# Altium integrated library CDE_Library.IntLib: 6171 symbols (part 5 of 25)
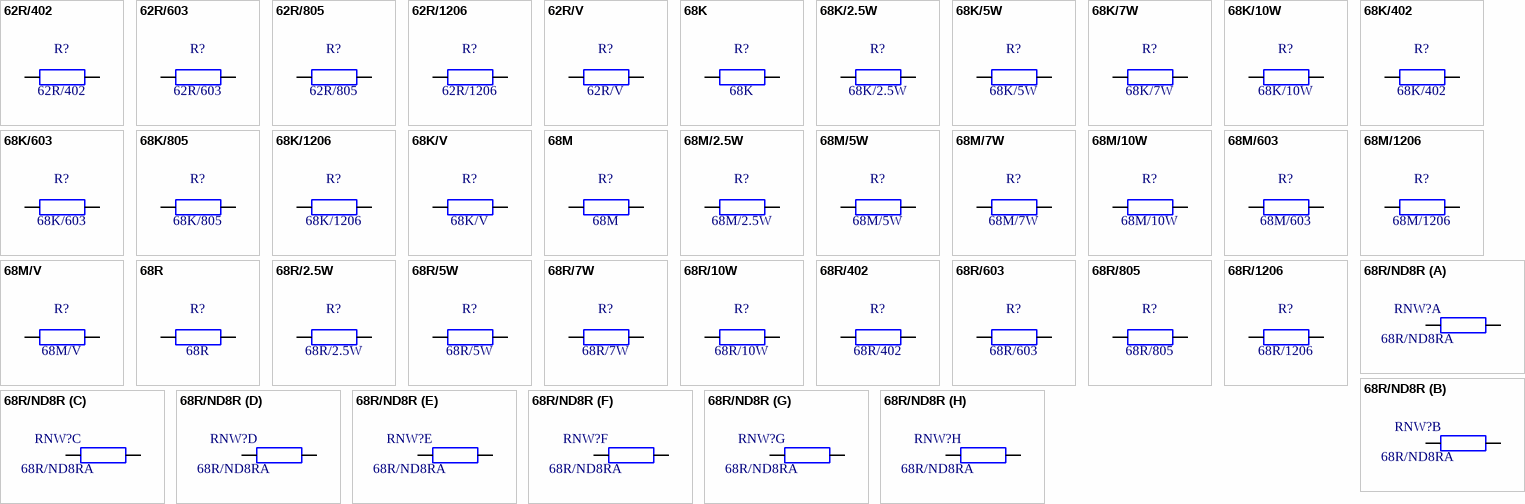
[diagram p261: symbols 62R/402 to 68R/ND8R]

## 62R/603
designator R?
weerstand SMD603, 62R
footprint smd C0603_0.45
pins: 1, 2

## 62R/805
designator R?
weerstand SMD805, 62R
footprint smd C0805_0.50
pins: 1, 2

## 62R/1206
designator R?
weerstand SMD1206, 62R
footprint smd C1206_0.55
pins: 1, 2

## 62R/V
designator R?
weerstand 62R 0.6W, vertikaal
footprint ws 0.6W V
pins: 1, 2

## 68K
designator R?
weerstand 68K 0.6W
footprint ws 0.6W H
pins: 1, 2

## 68K/2.5W
designator R?
weerstand 68K 2.5W
footprint ws 2.5W H
pins: 1, 2

## 68K/5W
designator R?
weerstand 68K 5W
footprint ws 5W H
pins: 1, 2

## 68K/7W
designator R?
weerstand 68K 7W
footprint ws 7W H
pins: 1, 2

## 68K/10W
designator R?
weerstand 68K 10W
footprint ws 10W H
pins: 1, 2

## 68K/402
designator R?
weerstand SMD402, 68K
footprint smd C0402_0.35
pins: 1, 2

## 68K/603
designator R?
weerstand SMD603, 68K
footprint smd C0603_0.45
pins: 1, 2

## 68K/805
designator R?
weerstand SMD805, 68K
footprint smd C0805_0.50
pins: 1, 2

## 68K/1206
designator R?
weerstand SMD1206, 68K
footprint smd C1206_0.55
pins: 1, 2

## 68K/V
designator R?
weerstand 68K 0.6W, vertikaal
footprint ws 0.6W V
pins: 1, 2

## 68M
designator R?
weerstand 68M 0.6W
footprint ws 0.6W H
pins: 1, 2

## 68M/2.5W
designator R?
weerstand 68M 2.5W
footprint ws 2.5W H
pins: 1, 2

## 68M/5W
designator R?
weerstand 68M 5W
footprint ws 5W H
pins: 1, 2

## 68M/7W
designator R?
weerstand 68M 7W
footprint ws 7W H
pins: 1, 2

## 68M/10W
designator R?
weerstand 68M 10W
footprint ws 10W H
pins: 1, 2

## 68M/603
designator R?
weerstand SMD603, 68M
footprint smd C0603_0.45
pins: 1, 2

## 68M/1206
designator R?
weerstand SMD1206, 68M
footprint smd C1206_0.55
pins: 1, 2

## 68M/V
designator R?
weerstand 68M 0.6W, vertikaal
footprint ws 0.6W V
pins: 1, 2

## 68R
designator R?
weerstand 68R 0.6W
footprint ws 0.6W H
pins: 1, 2

## 68R/2.5W
designator R?
weerstand 68R 2.5W
footprint ws 2.5W H
pins: 1, 2

## 68R/5W
designator R?
weerstand 68R 5W
footprint ws 5W H
pins: 1, 2

## 68R/7W
designator R?
weerstand 68R 7W
footprint ws 7W H
pins: 1, 2

## 68R/10W
designator R?
weerstand 68R 10W
footprint ws 10W H
pins: 1, 2

## 68R/402
designator R?
weerstand SMD402, 68R
footprint smd C0402_0.35
pins: 1, 2

## 68R/603
designator R?
weerstand SMD603, 68R
footprint smd C0603_0.45
pins: 1, 2

## 68R/805
designator R?
weerstand SMD805, 68R
footprint smd C0805_0.50
pins: 1, 2

## 68R/1206
designator R?
weerstand SMD1206, 68R
footprint smd C1206_0.55
pins: 1, 2

## 68R/ND8R
designator RNW?, comment 68R/ND8RA
weerstandsnetwerk, DIL, 8 x 68R
footprint icv DIP16-300
part A pins: 1, 16
part B pins: 2, 15
part C pins: 3, 14
part D pins: 4, 13
part E pins: 5, 12
part F pins: 6, 11
part G pins: 7, 10
part H pins: 8, 9

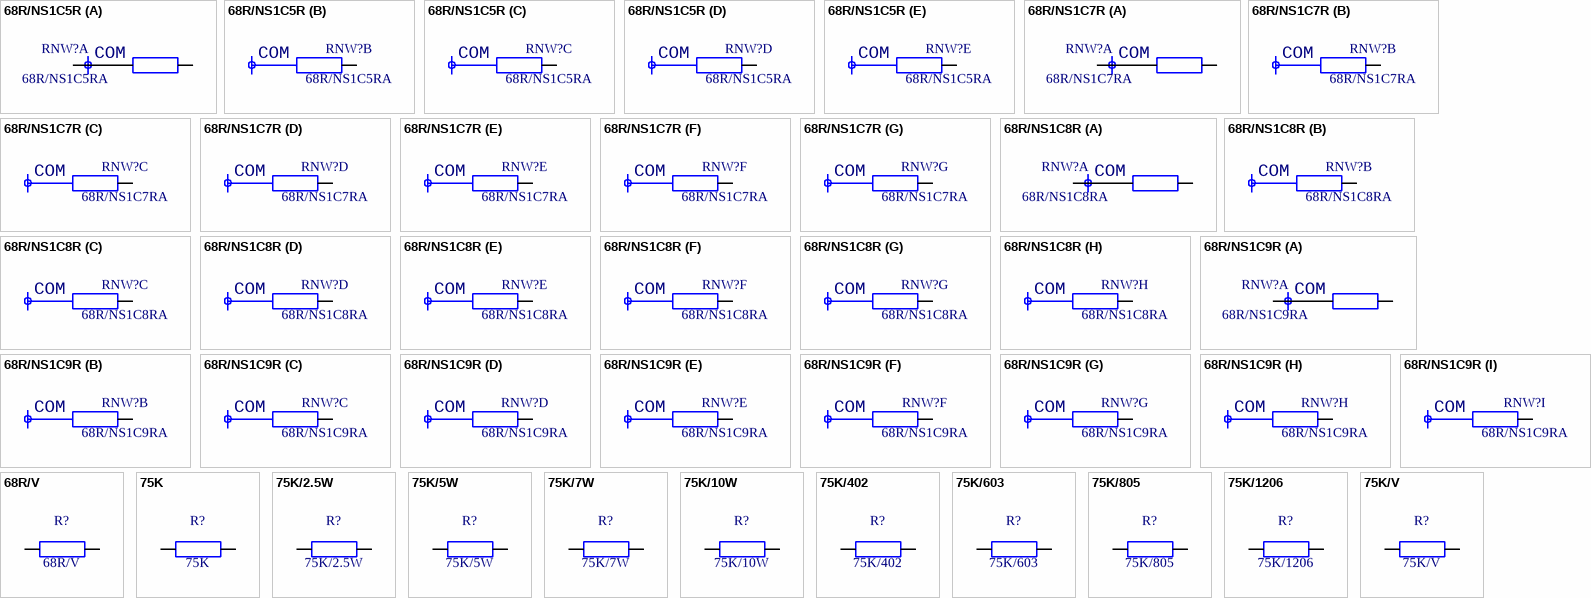
[diagram p69: symbols 68R/NS1C5R to 75K/V]

## 68R/NS1C5R
designator RNW?, comment 68R/NS1C5RA
weerstandsnetwerk, SIL, 1 gemeens.pin, 5 weerst., 68R
footprint ws netwerk 5xR 1C (SIL)
part A pins: 1, 2
part B pins: 3
part C pins: 4
part D pins: 5
part E pins: 6
part A text: COM
part B text: COM
part C text: COM
part D text: COM
part E text: COM

## 68R/NS1C7R
designator RNW?, comment 68R/NS1C7RA
weerstandsnetwerk, SIL, 1 gemeens.pin, 7 weerst., 68R
footprint ws netwerk 7xR 1C (SIL)
part A pins: 1, 2
part B pins: 3
part C pins: 4
part D pins: 5
part E pins: 6
part F pins: 7
part G pins: 8
part A text: COM
part B text: COM
part C text: COM
part D text: COM
part E text: COM
part F text: COM
part G text: COM

## 68R/NS1C8R
designator RNW?, comment 68R/NS1C8RA
weerstandsnetwerk, SIL, 1 gemeens.pin, 8 weerst., 68R
footprint ws netwerk 8xR 1C (SIL)
part A pins: 1, 2
part B pins: 3
part C pins: 4
part D pins: 5
part E pins: 6
part F pins: 7
part G pins: 8
part H pins: 9
part A text: COM
part B text: COM
part C text: COM
part D text: COM
part E text: COM
part F text: COM
part G text: COM
part H text: COM

## 68R/NS1C9R
designator RNW?, comment 68R/NS1C9RA
weerstandsnetwerk, SIL, 1 gemeens.pin, 9 weerst., 68R
footprint ws netwerk 9xR 1C (SIL)
part A pins: 1, 2
part B pins: 3
part C pins: 4
part D pins: 5
part E pins: 6
part F pins: 7
part G pins: 8
part H pins: 9
part I pins: 10
part A text: COM
part B text: COM
part C text: COM
part D text: COM
part E text: COM
part F text: COM
part G text: COM
part H text: COM
part I text: COM

## 68R/V
designator R?
weerstand 68R 0.6W, vertikaal
footprint ws 0.6W V
pins: 1, 2

## 75K
designator R?
weerstand 75K 0.6W
footprint ws 0.6W H
pins: 1, 2

## 75K/2.5W
designator R?
weerstand 75K 2.5W
footprint ws 2.5W H
pins: 1, 2

## 75K/5W
designator R?
weerstand 75K 5W
footprint ws 5W H
pins: 1, 2

## 75K/7W
designator R?
weerstand 75K 7W
footprint ws 7W H
pins: 1, 2

## 75K/10W
designator R?
weerstand 75K 10W
footprint ws 10W H
pins: 1, 2

## 75K/402
designator R?
weerstand SMD402, 75K
footprint smd C0402_0.35
pins: 1, 2

## 75K/603
designator R?
weerstand SMD603, 75K
footprint smd C0603_0.45
pins: 1, 2

## 75K/805
designator R?
weerstand SMD805, 75K
footprint smd C0805_0.50
pins: 1, 2

## 75K/1206
designator R?
weerstand SMD1206, 75K
footprint smd C1206_0.55
pins: 1, 2

## 75K/V
designator R?
weerstand 75K 0.6W, vertikaal
footprint ws 0.6W V
pins: 1, 2

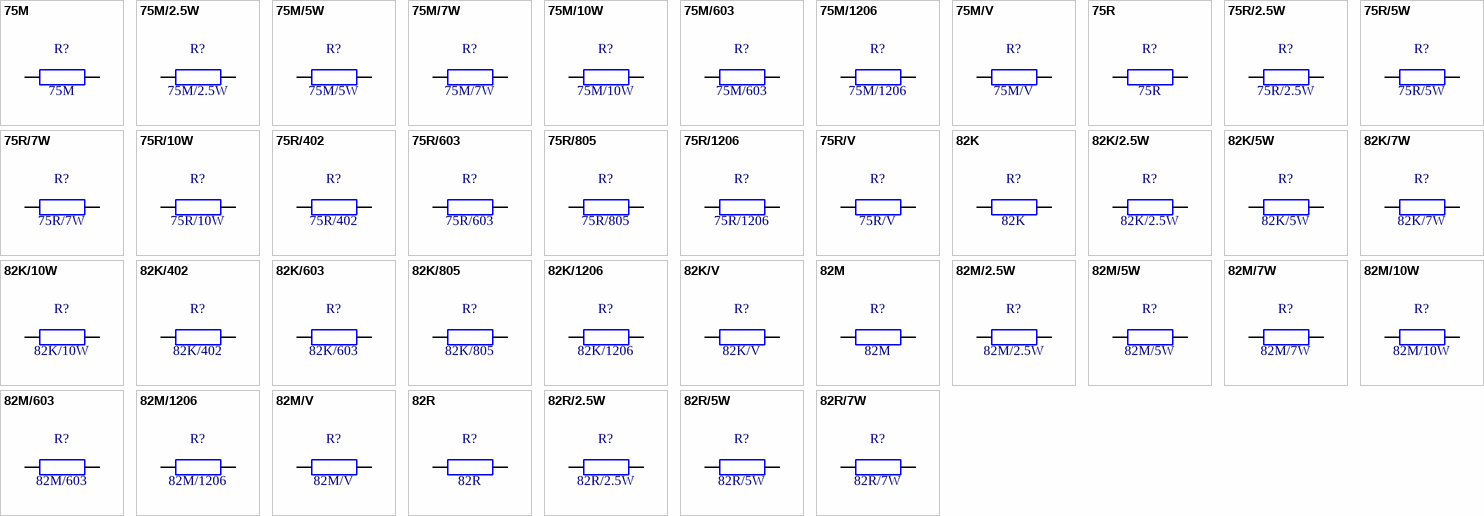
[diagram p70: symbols 75M to 82R/7W]

## 75M
designator R?
weerstand 75M 0.6W
footprint ws 0.6W H
pins: 1, 2

## 75M/2.5W
designator R?
weerstand 75M 2.5W
footprint ws 2.5W H
pins: 1, 2

## 75M/5W
designator R?
weerstand 75M 5W
footprint ws 5W H
pins: 1, 2

## 75M/7W
designator R?
weerstand 75M 7W
footprint ws 7W H
pins: 1, 2

## 75M/10W
designator R?
weerstand 75M 10W
footprint ws 10W H
pins: 1, 2

## 75M/603
designator R?
weerstand SMD603, 75M
footprint smd C0603_0.45
pins: 1, 2

## 75M/1206
designator R?
weerstand SMD1206, 75M
footprint smd C1206_0.55
pins: 1, 2

## 75M/V
designator R?
weerstand 75M 0.6W, vertikaal
footprint ws 0.6W V
pins: 1, 2

## 75R
designator R?
weerstand 75R 0.6W
footprint ws 0.6W H
pins: 1, 2

## 75R/2.5W
designator R?
weerstand 75R 2.5W
footprint ws 2.5W H
pins: 1, 2

## 75R/5W
designator R?
weerstand 75R 5W
footprint ws 5W H
pins: 1, 2

## 75R/7W
designator R?
weerstand 75R 7W
footprint ws 7W H
pins: 1, 2

## 75R/10W
designator R?
weerstand 75R 10W
footprint ws 10W H
pins: 1, 2

## 75R/402
designator R?
weerstand SMD402, 75R
footprint smd C0402_0.35
pins: 1, 2

## 75R/603
designator R?
weerstand SMD603, 75R
footprint smd C0603_0.45
pins: 1, 2

## 75R/805
designator R?
weerstand SMD805, 75R
footprint smd C0805_0.50
pins: 1, 2

## 75R/1206
designator R?
weerstand SMD1206, 75R
footprint smd C1206_0.55
pins: 1, 2

## 75R/V
designator R?
weerstand 75R 0.6W, vertikaal
footprint ws 0.6W V
pins: 1, 2

## 82K
designator R?
weerstand 82K 0.6W
footprint ws 0.6W H
pins: 1, 2

## 82K/2.5W
designator R?
weerstand 82K 2.5W
footprint ws 2.5W H
pins: 1, 2

## 82K/5W
designator R?
weerstand 82K 5W
footprint ws 5W H
pins: 1, 2

## 82K/7W
designator R?
weerstand 82K 7W
footprint ws 7W H
pins: 1, 2

## 82K/10W
designator R?
weerstand 82K 10W
footprint ws 10W H
pins: 1, 2

## 82K/402
designator R?
weerstand SMD402, 82K
footprint smd C0402_0.35
pins: 1, 2

## 82K/603
designator R?
weerstand SMD603, 82K
footprint smd C0603_0.45
pins: 1, 2

## 82K/805
designator R?
weerstand SMD805, 82K
footprint smd C0805_0.50
pins: 1, 2

## 82K/1206
designator R?
weerstand SMD1206, 82K
footprint smd C1206_0.55
pins: 1, 2

## 82K/V
designator R?
weerstand 82K 0.6W, vertikaal
footprint ws 0.6W V
pins: 1, 2

## 82M
designator R?
weerstand 82M 0.6W
footprint ws 0.6W H
pins: 1, 2

## 82M/2.5W
designator R?
weerstand 82M 2.5W
footprint ws 2.5W H
pins: 1, 2

## 82M/5W
designator R?
weerstand 82M 5W
footprint ws 5W H
pins: 1, 2

## 82M/7W
designator R?
weerstand 82M 7W
footprint ws 7W H
pins: 1, 2

## 82M/10W
designator R?
weerstand 82M 10W
footprint ws 10W H
pins: 1, 2

## 82M/603
designator R?
weerstand SMD603, 82M
footprint smd C0603_0.45
pins: 1, 2

## 82M/1206
designator R?
weerstand SMD1206, 82M
footprint smd C1206_0.55
pins: 1, 2

## 82M/V
designator R?
weerstand 82M 0.6W, vertikaal
footprint ws 0.6W V
pins: 1, 2

## 82R
designator R?
weerstand 82R 0.6W
footprint ws 0.6W H
pins: 1, 2

## 82R/2.5W
designator R?
weerstand 82R 2.5W
footprint ws 2.5W H
pins: 1, 2

## 82R/5W
designator R?
weerstand 82R 5W
footprint ws 5W H
pins: 1, 2

## 82R/7W
designator R?
weerstand 82R 7W
footprint ws 7W H
pins: 1, 2

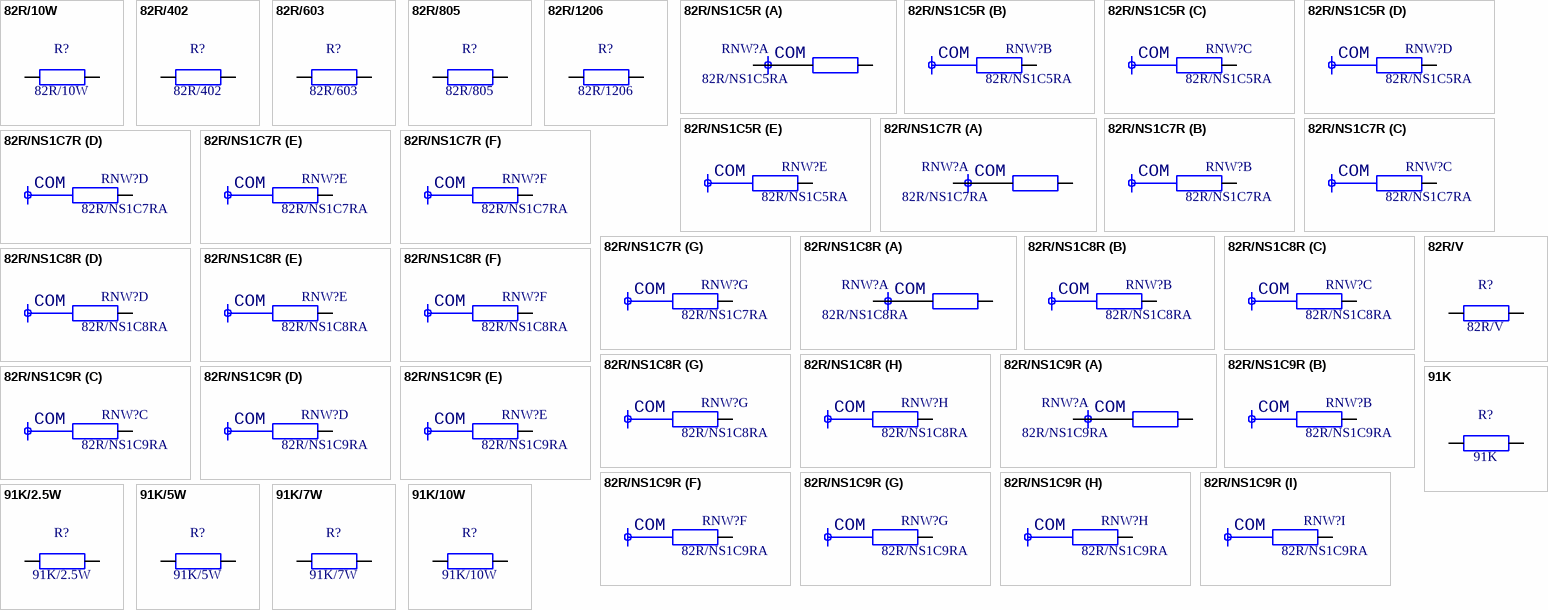
[diagram p71: symbols 82R/10W to 91K/10W]

## 82R/10W
designator R?
weerstand 82R 10W
footprint ws 10W H
pins: 1, 2

## 82R/402
designator R?
weerstand SMD402, 82R
footprint smd C0402_0.35
pins: 1, 2

## 82R/603
designator R?
weerstand SMD603, 82R
footprint smd C0603_0.45
pins: 1, 2

## 82R/805
designator R?
weerstand SMD805, 82R
footprint smd C0805_0.50
pins: 1, 2

## 82R/1206
designator R?
weerstand SMD1206, 82R
footprint smd C1206_0.55
pins: 1, 2

## 82R/NS1C5R
designator RNW?, comment 82R/NS1C5RA
weerstandsnetwerk, SIL, 1 gemeens.pin, 5 weerst., 82R
footprint ws netwerk 5xR 1C (SIL)
part A pins: 1, 2
part B pins: 3
part C pins: 4
part D pins: 5
part E pins: 6
part A text: COM
part B text: COM
part C text: COM
part D text: COM
part E text: COM

## 82R/NS1C7R
designator RNW?, comment 82R/NS1C7RA
weerstandsnetwerk, SIL, 1 gemeens.pin, 7 weerst., 82R
footprint ws netwerk 7xR 1C (SIL)
part A pins: 1, 2
part B pins: 3
part C pins: 4
part D pins: 5
part E pins: 6
part F pins: 7
part G pins: 8
part A text: COM
part B text: COM
part C text: COM
part D text: COM
part E text: COM
part F text: COM
part G text: COM

## 82R/NS1C8R
designator RNW?, comment 82R/NS1C8RA
weerstandsnetwerk, SIL, 1 gemeens.pin, 8 weerst., 82R
footprint ws netwerk 8xR 1C (SIL)
part A pins: 1, 2
part B pins: 3
part C pins: 4
part D pins: 5
part E pins: 6
part F pins: 7
part G pins: 8
part H pins: 9
part A text: COM
part B text: COM
part C text: COM
part D text: COM
part E text: COM
part F text: COM
part G text: COM
part H text: COM

## 82R/NS1C9R
designator RNW?, comment 82R/NS1C9RA
weerstandsnetwerk, SIL, 1 gemeens.pin, 9 weerst., 82R
footprint ws netwerk 9xR 1C (SIL)
part A pins: 1, 2
part B pins: 3
part C pins: 4
part D pins: 5
part E pins: 6
part F pins: 7
part G pins: 8
part H pins: 9
part I pins: 10
part A text: COM
part B text: COM
part C text: COM
part D text: COM
part E text: COM
part F text: COM
part G text: COM
part H text: COM
part I text: COM

## 82R/V
designator R?
weerstand 82R 0.6W, vertikaal
footprint ws 0.6W V
pins: 1, 2

## 91K
designator R?
weerstand 91K 0.6W
footprint ws 0.6W H
pins: 1, 2

## 91K/2.5W
designator R?
weerstand 91K 2.5W
footprint ws 2.5W H
pins: 1, 2

## 91K/5W
designator R?
weerstand 91K 5W
footprint ws 5W H
pins: 1, 2

## 91K/7W
designator R?
weerstand 91K 7W
footprint ws 7W H
pins: 1, 2

## 91K/10W
designator R?
weerstand 91K 10W
footprint ws 10W H
pins: 1, 2

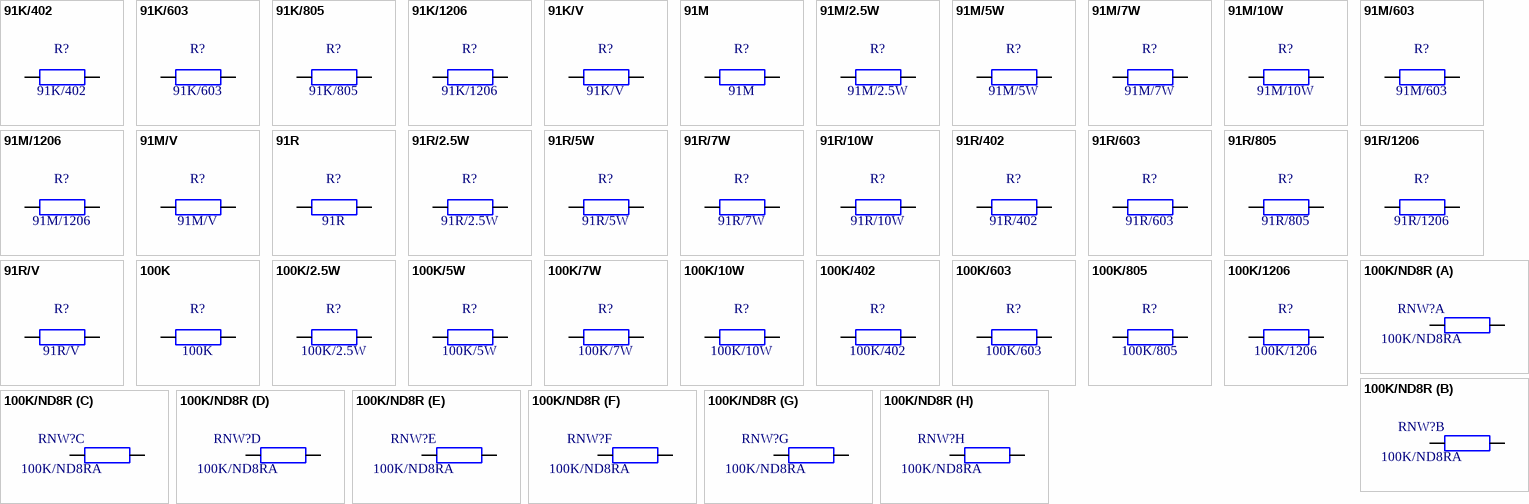
[diagram p72: symbols 91K/402 to 100K/ND8R]

## 91K/402
designator R?
weerstand SMD402, 91K
footprint smd C0402_0.35
pins: 1, 2

## 91K/603
designator R?
weerstand SMD603, 91K
footprint smd C0603_0.45
pins: 1, 2

## 91K/805
designator R?
weerstand SMD805, 91K
footprint smd C0805_0.50
pins: 1, 2

## 91K/1206
designator R?
weerstand SMD1206, 91K
footprint smd C1206_0.55
pins: 1, 2

## 91K/V
designator R?
weerstand 91K 0.6W, vertikaal
footprint ws 0.6W V
pins: 1, 2

## 91M
designator R?
weerstand 91M 0.6W
footprint ws 0.6W H
pins: 1, 2

## 91M/2.5W
designator R?
weerstand 91M 2.5W
footprint ws 2.5W H
pins: 1, 2

## 91M/5W
designator R?
weerstand 91M 5W
footprint ws 5W H
pins: 1, 2

## 91M/7W
designator R?
weerstand 91M 7W
footprint ws 7W H
pins: 1, 2

## 91M/10W
designator R?
weerstand 91M 10W
footprint ws 10W H
pins: 1, 2

## 91M/603
designator R?
weerstand SMD603, 91M
footprint smd C0603_0.45
pins: 1, 2

## 91M/1206
designator R?
weerstand SMD1206, 91M
footprint smd C1206_0.55
pins: 1, 2

## 91M/V
designator R?
weerstand 91M 0.6W, vertikaal
footprint ws 0.6W V
pins: 1, 2

## 91R
designator R?
weerstand 91R 0.6W
footprint ws 0.6W H
pins: 1, 2

## 91R/2.5W
designator R?
weerstand 91R 2.5W
footprint ws 2.5W H
pins: 1, 2

## 91R/5W
designator R?
weerstand 91R 5W
footprint ws 5W H
pins: 1, 2

## 91R/7W
designator R?
weerstand 91R 7W
footprint ws 7W H
pins: 1, 2

## 91R/10W
designator R?
weerstand 91R 10W
footprint ws 10W H
pins: 1, 2

## 91R/402
designator R?
weerstand SMD402, 91R
footprint smd C0402_0.35
pins: 1, 2

## 91R/603
designator R?
weerstand SMD603, 91R
footprint smd C0603_0.45
pins: 1, 2

## 91R/805
designator R?
weerstand SMD805, 91R
footprint smd C0805_0.50
pins: 1, 2

## 91R/1206
designator R?
weerstand SMD1206, 91R
footprint smd C1206_0.55
pins: 1, 2

## 91R/V
designator R?
weerstand 91R 0.6W, vertikaal
footprint ws 0.6W V
pins: 1, 2

## 100K
designator R?
weerstand 100K 0.6W
footprint ws 0.6W H
pins: 1, 2

## 100K/2.5W
designator R?
weerstand 100K 2.5W
footprint ws 2.5W H
pins: 1, 2

## 100K/5W
designator R?
weerstand 100K 5W
footprint ws 5W H
pins: 1, 2

## 100K/7W
designator R?
weerstand 100K 7W
footprint ws 7W H
pins: 1, 2

## 100K/10W
designator R?
weerstand 100K 10W
footprint ws 10W H
pins: 1, 2

## 100K/402
designator R?
weerstand SMD402, 100K
footprint smd C0402_0.35
pins: 1, 2

## 100K/603
designator R?
weerstand SMD603, 100K
footprint smd C0603_0.45
pins: 1, 2

## 100K/805
designator R?
weerstand SMD805, 100K
footprint smd C0805_0.50
pins: 1, 2

## 100K/1206
designator R?
weerstand SMD1206, 100K
footprint smd C1206_0.55
pins: 1, 2

## 100K/ND8R
designator RNW?, comment 100K/ND8RA
weerstandsnetwerk, DIL, 8 x 100K
footprint icv DIP16-300
part A pins: 1, 16
part B pins: 2, 15
part C pins: 3, 14
part D pins: 4, 13
part E pins: 5, 12
part F pins: 6, 11
part G pins: 7, 10
part H pins: 8, 9

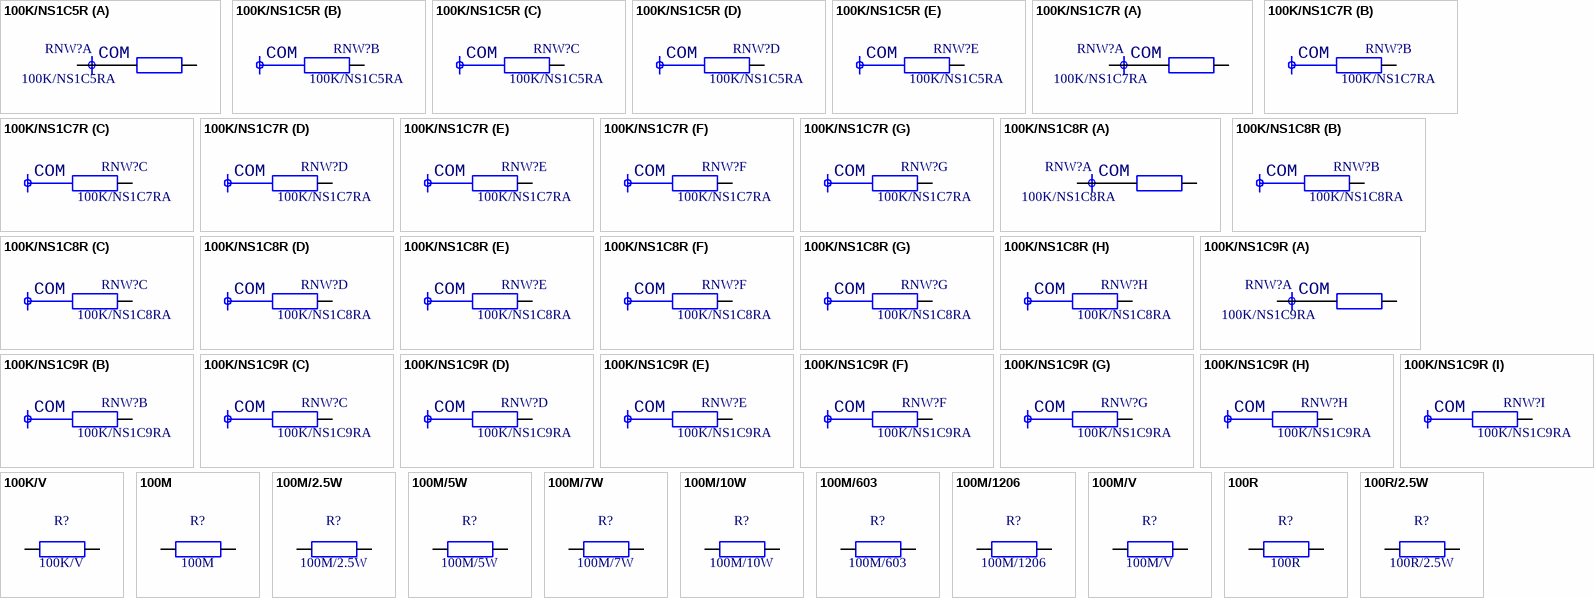
[diagram p73: symbols 100K/NS1C5R to 100R/2.5W]

## 100K/NS1C5R
designator RNW?, comment 100K/NS1C5RA
weerstandsnetwerk, SIL, 1 gemeens.pin, 5 weerst., 100K
footprint ws netwerk 5xR 1C (SIL)
part A pins: 1, 2
part B pins: 3
part C pins: 4
part D pins: 5
part E pins: 6
part A text: COM
part B text: COM
part C text: COM
part D text: COM
part E text: COM

## 100K/NS1C7R
designator RNW?, comment 100K/NS1C7RA
weerstandsnetwerk, SIL, 1 gemeens.pin, 7 weerst., 100K
footprint ws netwerk 7xR 1C (SIL)
part A pins: 1, 2
part B pins: 3
part C pins: 4
part D pins: 5
part E pins: 6
part F pins: 7
part G pins: 8
part A text: COM
part B text: COM
part C text: COM
part D text: COM
part E text: COM
part F text: COM
part G text: COM

## 100K/NS1C8R
designator RNW?, comment 100K/NS1C8RA
weerstandsnetwerk, SIL, 1 gemeens.pin, 8 weerst., 100K
footprint ws netwerk 8xR 1C (SIL)
part A pins: 1, 2
part B pins: 3
part C pins: 4
part D pins: 5
part E pins: 6
part F pins: 7
part G pins: 8
part H pins: 9
part A text: COM
part B text: COM
part C text: COM
part D text: COM
part E text: COM
part F text: COM
part G text: COM
part H text: COM

## 100K/NS1C9R
designator RNW?, comment 100K/NS1C9RA
weerstandsnetwerk, SIL, 1 gemeens.pin, 9 weerst., 100K
footprint ws netwerk 9xR 1C (SIL)
part A pins: 1, 2
part B pins: 3
part C pins: 4
part D pins: 5
part E pins: 6
part F pins: 7
part G pins: 8
part H pins: 9
part I pins: 10
part A text: COM
part B text: COM
part C text: COM
part D text: COM
part E text: COM
part F text: COM
part G text: COM
part H text: COM
part I text: COM

## 100K/V
designator R?
weerstand 100K 0.6W, vertikaal
footprint ws 0.6W V
pins: 1, 2

## 100M
designator R?
weerstand 100M 0.6W
footprint ws 0.6W H
pins: 1, 2

## 100M/2.5W
designator R?
weerstand 100M 2.5W
footprint ws 2.5W H
pins: 1, 2

## 100M/5W
designator R?
weerstand 100M 5W
footprint ws 5W H
pins: 1, 2

## 100M/7W
designator R?
weerstand 100M 7W
footprint ws 7W H
pins: 1, 2

## 100M/10W
designator R?
weerstand 100M 10W
footprint ws 10W H
pins: 1, 2

## 100M/603
designator R?
weerstand SMD603, 100M
footprint smd C0603_0.45
pins: 1, 2

## 100M/1206
designator R?
weerstand SMD1206, 100M
footprint smd C1206_0.55
pins: 1, 2

## 100M/V
designator R?
weerstand 100M 0.6W, vertikaal
footprint ws 0.6W V
pins: 1, 2

## 100R
designator R?
weerstand 100R 0.6W
footprint ws 0.6W H
pins: 1, 2

## 100R/2.5W
designator R?
weerstand 100R 2.5W
footprint ws 2.5W H
pins: 1, 2

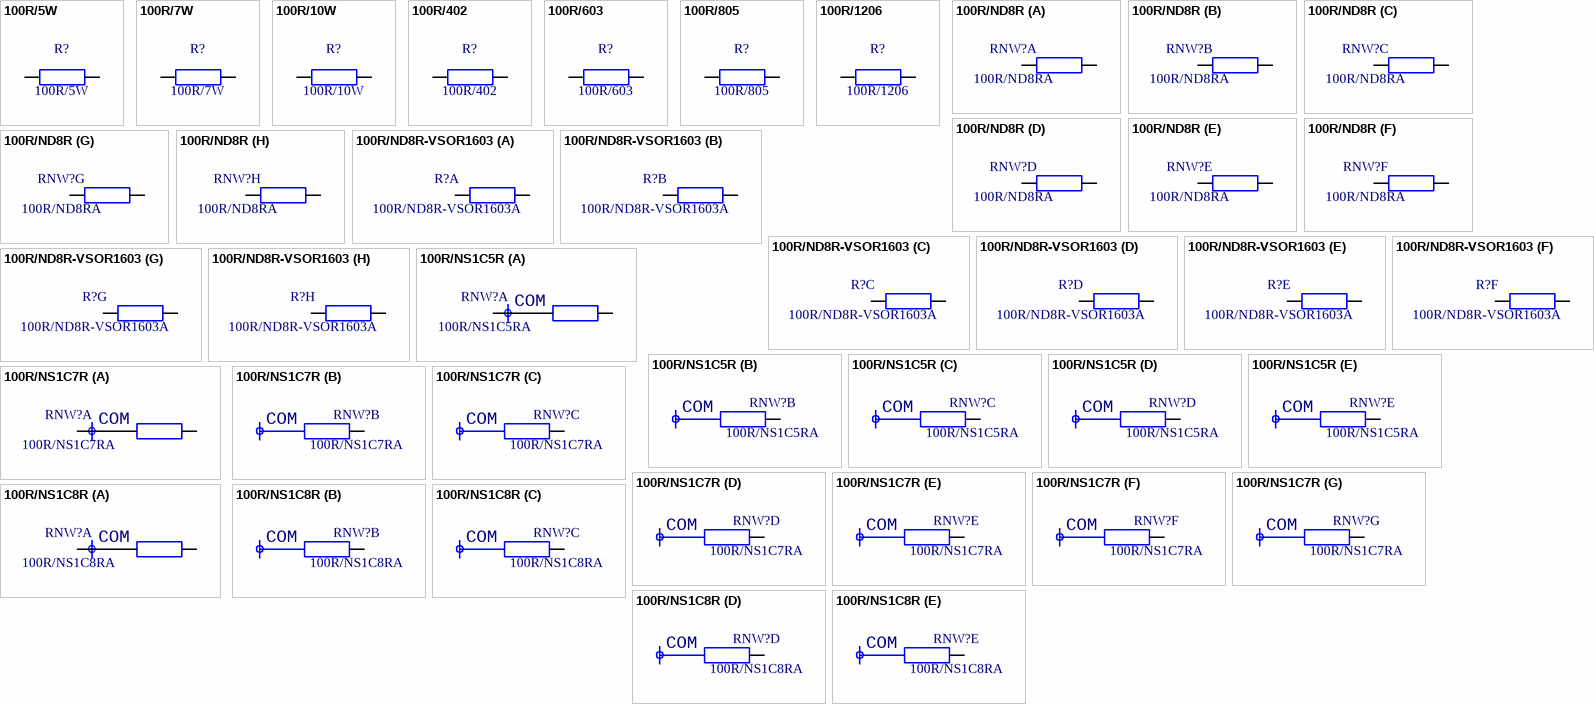
[diagram p74: symbols 100R/5W to 100R/NS1C8R]

## 100R/5W
designator R?
weerstand 100R 5W
footprint ws 5W H
pins: 1, 2

## 100R/7W
designator R?
weerstand 100R 7W
footprint ws 7W H
pins: 1, 2

## 100R/10W
designator R?
weerstand 100R 10W
footprint ws 10W H
pins: 1, 2

## 100R/402
designator R?
weerstand SMD402, 100R
footprint smd C0402_0.35
pins: 1, 2

## 100R/603
designator R?
weerstand SMD603, 100R
footprint smd C0603_0.45
pins: 1, 2

## 100R/805
designator R?
weerstand SMD805, 100R
footprint smd C0805_0.50
pins: 1, 2

## 100R/1206
designator R?
weerstand SMD1206, 100R
footprint smd C1206_0.55
pins: 1, 2

## 100R/ND8R
designator RNW?, comment 100R/ND8RA
weerstandsnetwerk, DIL, 8 x 100R
footprint icv DIP16-300
part A pins: 1, 16
part B pins: 2, 15
part C pins: 3, 14
part D pins: 4, 13
part E pins: 5, 12
part F pins: 6, 11
part G pins: 7, 10
part H pins: 8, 9

## 100R/ND8R-VSOR1603
designator R?, comment 100R/ND8R-VSOR1603A
weerstandsnetwerk, DIL, smd, Vishay VSOR1603, 8 x 100R
footprint smd SOICN/16
part A pins: 1, 16
part B pins: 2, 15
part C pins: 3, 14
part D pins: 4, 13
part E pins: 5, 12
part F pins: 6, 11
part G pins: 7, 10
part H pins: 8, 9

## 100R/NS1C5R
designator RNW?, comment 100R/NS1C5RA
weerstandsnetwerk, SIL, 1 gemeens.pin, 5 weerst., 100R
footprint ws netwerk 5xR 1C (SIL)
part A pins: 1, 2
part B pins: 3
part C pins: 4
part D pins: 5
part E pins: 6
part A text: COM
part B text: COM
part C text: COM
part D text: COM
part E text: COM

## 100R/NS1C7R
designator RNW?, comment 100R/NS1C7RA
weerstandsnetwerk, SIL, 1 gemeens.pin, 7 weerst., 100R
footprint ws netwerk 7xR 1C (SIL)
part A pins: 1, 2
part B pins: 3
part C pins: 4
part D pins: 5
part E pins: 6
part F pins: 7
part G pins: 8
part A text: COM
part B text: COM
part C text: COM
part D text: COM
part E text: COM
part F text: COM
part G text: COM

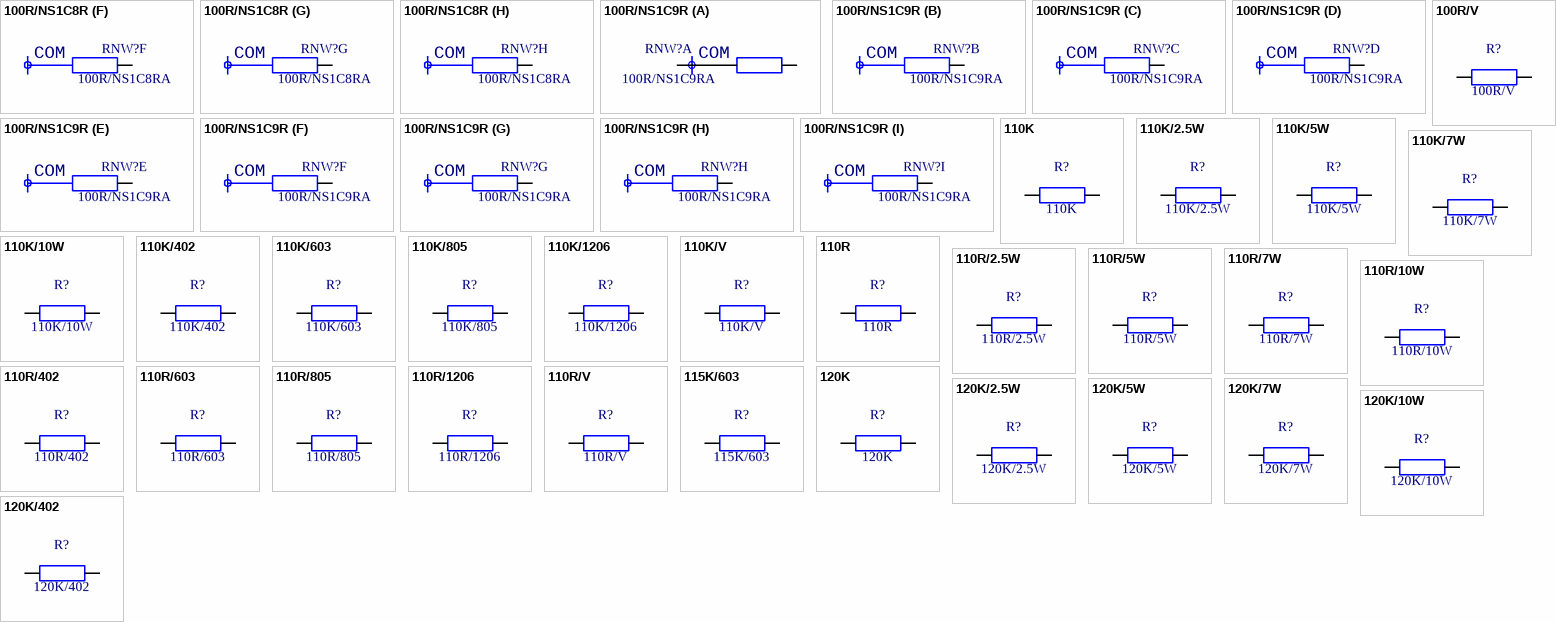
[diagram p75: symbols 100R/NS1C8R to 120K/402]

## 100R/NS1C8R
designator RNW?, comment 100R/NS1C8RA
weerstandsnetwerk, SIL, 1 gemeens.pin, 8 weerst., 100R
footprint ws netwerk 8xR 1C (SIL)
part A pins: 1, 2
part B pins: 3
part C pins: 4
part D pins: 5
part E pins: 6
part F pins: 7
part G pins: 8
part H pins: 9
part A text: COM
part B text: COM
part C text: COM
part D text: COM
part E text: COM
part F text: COM
part G text: COM
part H text: COM

## 100R/NS1C9R
designator RNW?, comment 100R/NS1C9RA
weerstandsnetwerk, SIL, 1 gemeens.pin, 9 weerst., 100R
footprint ws netwerk 9xR 1C (SIL)
part A pins: 1, 2
part B pins: 3
part C pins: 4
part D pins: 5
part E pins: 6
part F pins: 7
part G pins: 8
part H pins: 9
part I pins: 10
part A text: COM
part B text: COM
part C text: COM
part D text: COM
part E text: COM
part F text: COM
part G text: COM
part H text: COM
part I text: COM

## 100R/V
designator R?
weerstand 100R 0.6W, vertikaal
footprint ws 0.6W V
pins: 1, 2

## 110K
designator R?
weerstand 110K 0.6W
footprint ws 0.6W H
pins: 1, 2

## 110K/2.5W
designator R?
weerstand 110K 2.5W
footprint ws 2.5W H
pins: 1, 2

## 110K/5W
designator R?
weerstand 110K 5W
footprint ws 5W H
pins: 1, 2

## 110K/7W
designator R?
weerstand 110K 7W
footprint ws 7W H
pins: 1, 2

## 110K/10W
designator R?
weerstand 110K 10W
footprint ws 10W H
pins: 1, 2

## 110K/402
designator R?
weerstand SMD402, 110K
footprint smd C0402_0.35
pins: 1, 2

## 110K/603
designator R?
weerstand SMD603, 110K
footprint smd C0603_0.45
pins: 1, 2

## 110K/805
designator R?
weerstand SMD805, 110K
footprint smd C0805_0.50
pins: 1, 2

## 110K/1206
designator R?
weerstand SMD1206, 110K
footprint smd C1206_0.55
pins: 1, 2

## 110K/V
designator R?
weerstand 110K 0.6W, vertikaal
footprint ws 0.6W V
pins: 1, 2

## 110R
designator R?
weerstand 110R 0.6W
footprint ws 0.6W H
pins: 1, 2

## 110R/2.5W
designator R?
weerstand 110R 2.5W
footprint ws 2.5W H
pins: 1, 2

## 110R/5W
designator R?
weerstand 110R 5W
footprint ws 5W H
pins: 1, 2

## 110R/7W
designator R?
weerstand 110R 7W
footprint ws 7W H
pins: 1, 2

## 110R/10W
designator R?
weerstand 110R 10W
footprint ws 10W H
pins: 1, 2

## 110R/402
designator R?
weerstand SMD402, 110R
footprint smd C0402_0.35
pins: 1, 2

## 110R/603
designator R?
weerstand SMD603, 110R
footprint smd C0603_0.45
pins: 1, 2

## 110R/805
designator R?
weerstand SMD805, 110R
footprint smd C0805_0.50
pins: 1, 2

## 110R/1206
designator R?
weerstand SMD1206, 110R
footprint smd C1206_0.55
pins: 1, 2

## 110R/V
designator R?
weerstand 110R 0.6W, vertikaal
footprint ws 0.6W V
pins: 1, 2

## 115K/603
designator R?
weerstand SMD603, 115K
footprint smd C0603_0.45
pins: 1, 2

## 120K
designator R?
weerstand 120K 0.6W
footprint ws 0.6W H
pins: 1, 2

## 120K/2.5W
designator R?
weerstand 120K 2.5W
footprint ws 2.5W H
pins: 1, 2

## 120K/5W
designator R?
weerstand 120K 5W
footprint ws 5W H
pins: 1, 2

## 120K/7W
designator R?
weerstand 120K 7W
footprint ws 7W H
pins: 1, 2

## 120K/10W
designator R?
weerstand 120K 10W
footprint ws 10W H
pins: 1, 2

## 120K/402
designator R?
weerstand SMD402, 120K
footprint smd C0402_0.35
pins: 1, 2

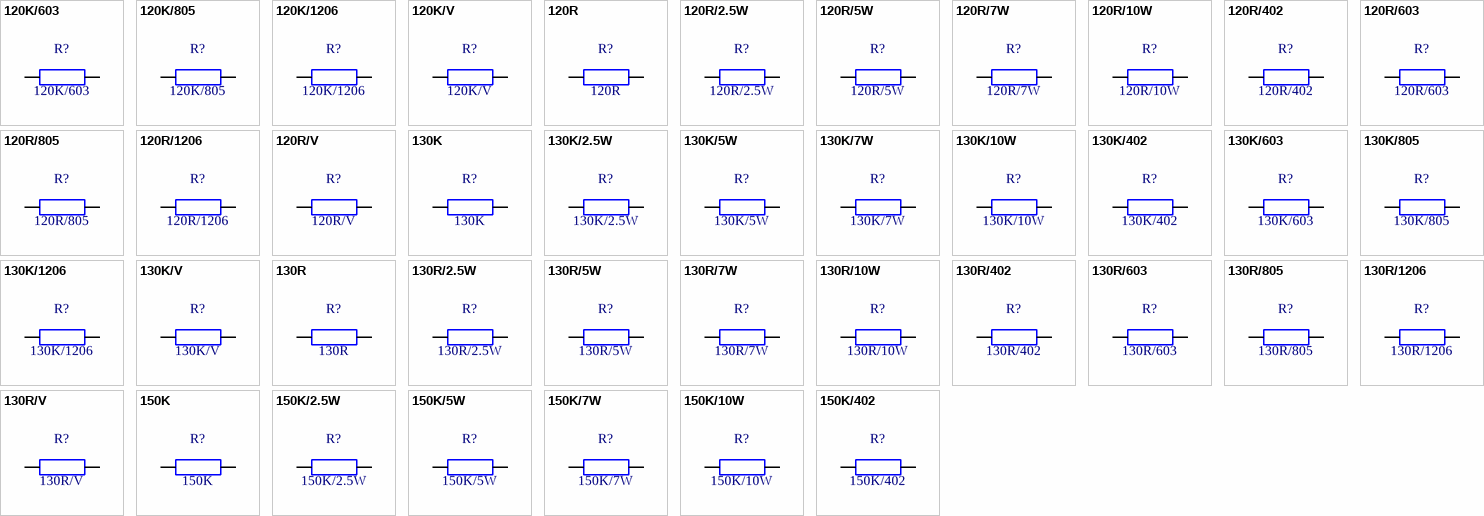
[diagram p76: symbols 120K/603 to 150K/402]

## 120K/603
designator R?
weerstand SMD603, 120K
footprint smd C0603_0.45
pins: 1, 2

## 120K/805
designator R?
weerstand SMD805, 120K
footprint smd C0805_0.50
pins: 1, 2

## 120K/1206
designator R?
weerstand SMD1206, 120K
footprint smd C1206_0.55
pins: 1, 2

## 120K/V
designator R?
weerstand 120K 0.6W, vertikaal
footprint ws 0.6W V
pins: 1, 2

## 120R
designator R?
weerstand 120R 0.6W
footprint ws 0.6W H
pins: 1, 2

## 120R/2.5W
designator R?
weerstand 120R 2.5W
footprint ws 2.5W H
pins: 1, 2

## 120R/5W
designator R?
weerstand 120R 5W
footprint ws 5W H
pins: 1, 2

## 120R/7W
designator R?
weerstand 120R 7W
footprint ws 7W H
pins: 1, 2

## 120R/10W
designator R?
weerstand 120R 10W
footprint ws 10W H
pins: 1, 2

## 120R/402
designator R?
weerstand SMD402, 120R
footprint smd C0402_0.35
pins: 1, 2

## 120R/603
designator R?
weerstand SMD603, 120R
footprint smd C0603_0.45
pins: 1, 2

## 120R/805
designator R?
weerstand SMD805, 120R
footprint smd C0805_0.50
pins: 1, 2

## 120R/1206
designator R?
weerstand SMD1206, 120R
footprint smd C1206_0.55
pins: 1, 2

## 120R/V
designator R?
weerstand 120R 0.6W, vertikaal
footprint ws 0.6W V
pins: 1, 2

## 130K
designator R?
weerstand 130K 0.6W
footprint ws 0.6W H
pins: 1, 2

## 130K/2.5W
designator R?
weerstand 130K 2.5W
footprint ws 2.5W H
pins: 1, 2

## 130K/5W
designator R?
weerstand 130K 5W
footprint ws 5W H
pins: 1, 2

## 130K/7W
designator R?
weerstand 130K 7W
footprint ws 7W H
pins: 1, 2

## 130K/10W
designator R?
weerstand 130K 10W
footprint ws 10W H
pins: 1, 2

## 130K/402
designator R?
weerstand SMD402, 130K
footprint smd C0402_0.35
pins: 1, 2

## 130K/603
designator R?
weerstand SMD603, 130K
footprint smd C0603_0.45
pins: 1, 2

## 130K/805
designator R?
weerstand SMD805, 130K
footprint smd C0805_0.50
pins: 1, 2

## 130K/1206
designator R?
weerstand SMD1206, 130K
footprint smd C1206_0.55
pins: 1, 2

## 130K/V
designator R?
weerstand 130K 0.6W, vertikaal
footprint ws 0.6W V
pins: 1, 2

## 130R
designator R?
weerstand 130R 0.6W
footprint ws 0.6W H
pins: 1, 2

## 130R/2.5W
designator R?
weerstand 130R 2.5W
footprint ws 2.5W H
pins: 1, 2

## 130R/5W
designator R?
weerstand 130R 5W
footprint ws 5W H
pins: 1, 2

## 130R/7W
designator R?
weerstand 130R 7W
footprint ws 7W H
pins: 1, 2

## 130R/10W
designator R?
weerstand 130R 10W
footprint ws 10W H
pins: 1, 2

## 130R/402
designator R?
weerstand SMD402, 130R
footprint smd C0402_0.35
pins: 1, 2

## 130R/603
designator R?
weerstand SMD603, 130R
footprint smd C0603_0.45
pins: 1, 2

## 130R/805
designator R?
weerstand SMD805, 130R
footprint smd C0805_0.50
pins: 1, 2

## 130R/1206
designator R?
weerstand SMD1206, 130R
footprint smd C1206_0.55
pins: 1, 2

## 130R/V
designator R?
weerstand 130R 0.6W, vertikaal
footprint ws 0.6W V
pins: 1, 2

## 150K
designator R?
weerstand 150K 0.6W
footprint ws 0.6W H
pins: 1, 2

## 150K/2.5W
designator R?
weerstand 150K 2.5W
footprint ws 2.5W H
pins: 1, 2

## 150K/5W
designator R?
weerstand 150K 5W
footprint ws 5W H
pins: 1, 2

## 150K/7W
designator R?
weerstand 150K 7W
footprint ws 7W H
pins: 1, 2

## 150K/10W
designator R?
weerstand 150K 10W
footprint ws 10W H
pins: 1, 2

## 150K/402
designator R?
weerstand SMD402, 150K
footprint smd C0402_0.35
pins: 1, 2

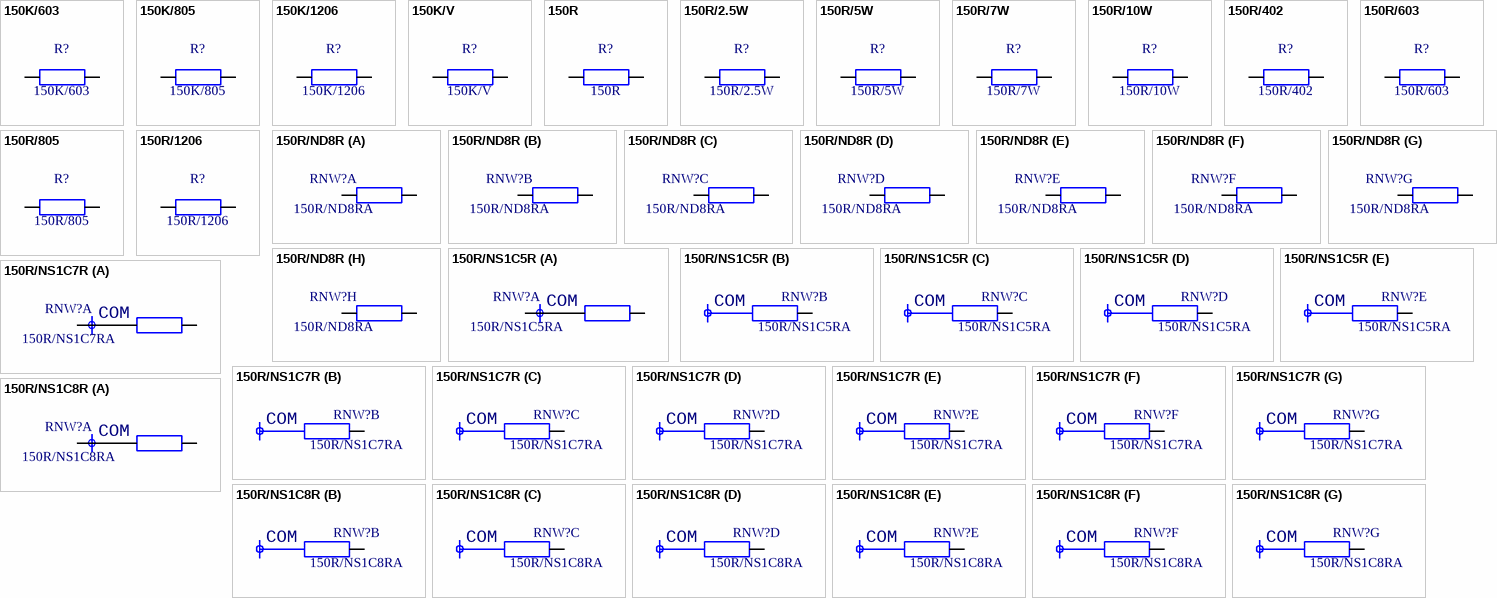
[diagram p77: symbols 150K/603 to 150R/NS1C8R]

## 150K/603
designator R?
weerstand SMD603, 150K
footprint smd C0603_0.45
pins: 1, 2

## 150K/805
designator R?
weerstand SMD805, 150K
footprint smd C0805_0.50
pins: 1, 2

## 150K/1206
designator R?
weerstand SMD1206, 150K
footprint smd C1206_0.55
pins: 1, 2

## 150K/V
designator R?
weerstand 150K 0.6W, vertikaal
footprint ws 0.6W V
pins: 1, 2

## 150R
designator R?
weerstand 150R 0.6W
footprint ws 0.6W H
pins: 1, 2

## 150R/2.5W
designator R?
weerstand 150R 2.5W
footprint ws 2.5W H
pins: 1, 2

## 150R/5W
designator R?
weerstand 150R 5W
footprint ws 5W H
pins: 1, 2

## 150R/7W
designator R?
weerstand 150R 7W
footprint ws 7W H
pins: 1, 2

## 150R/10W
designator R?
weerstand 150R 10W
footprint ws 10W H
pins: 1, 2

## 150R/402
designator R?
weerstand SMD402, 150R
footprint smd C0402_0.35
pins: 1, 2

## 150R/603
designator R?
weerstand SMD603, 150R
footprint smd C0603_0.45
pins: 1, 2

## 150R/805
designator R?
weerstand SMD805, 150R
footprint smd C0805_0.50
pins: 1, 2

## 150R/1206
designator R?
weerstand SMD1206, 150R
footprint smd C1206_0.55
pins: 1, 2

## 150R/ND8R
designator RNW?, comment 150R/ND8RA
weerstandsnetwerk, DIL, 8 x 150R
footprint icv DIP16-300
part A pins: 1, 16
part B pins: 2, 15
part C pins: 3, 14
part D pins: 4, 13
part E pins: 5, 12
part F pins: 6, 11
part G pins: 7, 10
part H pins: 8, 9

## 150R/NS1C5R
designator RNW?, comment 150R/NS1C5RA
weerstandsnetwerk, SIL, 1 gemeens.pin, 5 weerst., 150R
footprint ws netwerk 5xR 1C (SIL)
part A pins: 1, 2
part B pins: 3
part C pins: 4
part D pins: 5
part E pins: 6
part A text: COM
part B text: COM
part C text: COM
part D text: COM
part E text: COM

## 150R/NS1C7R
designator RNW?, comment 150R/NS1C7RA
weerstandsnetwerk, SIL, 1 gemeens.pin, 7 weerst., 150R
footprint ws netwerk 7xR 1C (SIL)
part A pins: 1, 2
part B pins: 3
part C pins: 4
part D pins: 5
part E pins: 6
part F pins: 7
part G pins: 8
part A text: COM
part B text: COM
part C text: COM
part D text: COM
part E text: COM
part F text: COM
part G text: COM

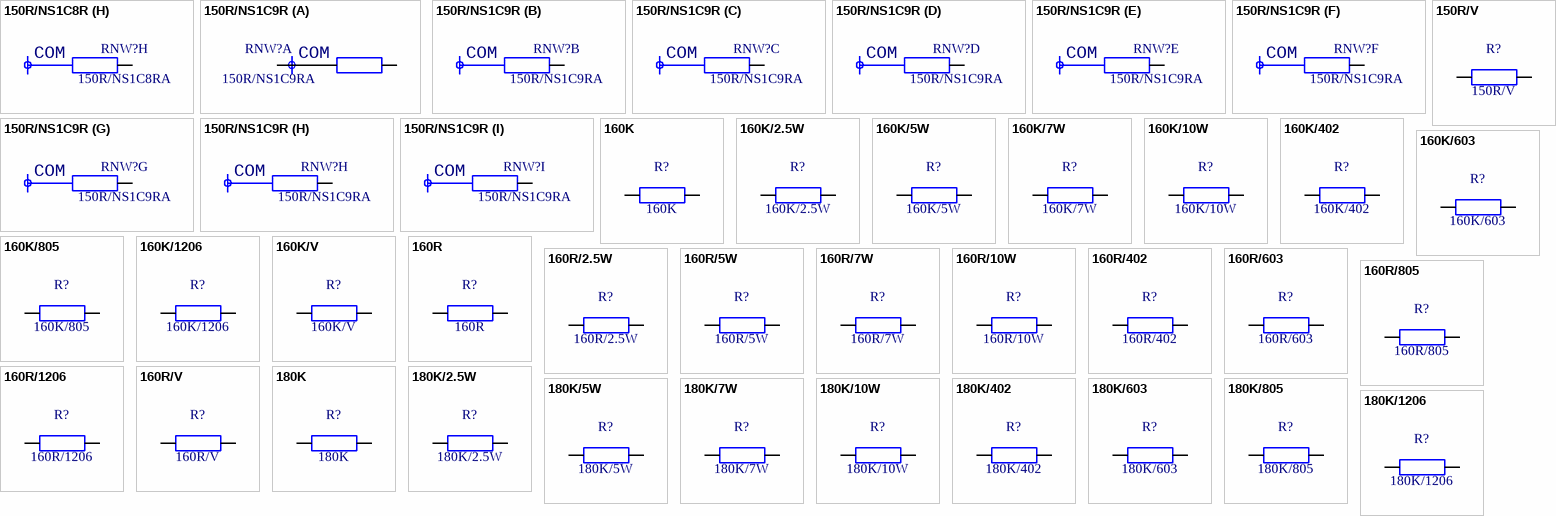
[diagram p78: symbols 150R/NS1C8R to 180K/1206]

## 150R/NS1C8R
designator RNW?, comment 150R/NS1C8RA
weerstandsnetwerk, SIL, 1 gemeens.pin, 8 weerst., 150R
footprint ws netwerk 8xR 1C (SIL)
part A pins: 1, 2
part B pins: 3
part C pins: 4
part D pins: 5
part E pins: 6
part F pins: 7
part G pins: 8
part H pins: 9
part A text: COM
part B text: COM
part C text: COM
part D text: COM
part E text: COM
part F text: COM
part G text: COM
part H text: COM

## 150R/NS1C9R
designator RNW?, comment 150R/NS1C9RA
weerstandsnetwerk, SIL, 1 gemeens.pin, 9 weerst., 150R
footprint ws netwerk 9xR 1C (SIL)
part A pins: 1, 2
part B pins: 3
part C pins: 4
part D pins: 5
part E pins: 6
part F pins: 7
part G pins: 8
part H pins: 9
part I pins: 10
part A text: COM
part B text: COM
part C text: COM
part D text: COM
part E text: COM
part F text: COM
part G text: COM
part H text: COM
part I text: COM

## 150R/V
designator R?
weerstand 150R 0.6W, vertikaal
footprint ws 0.6W V
pins: 1, 2

## 160K
designator R?
weerstand 160K 0.6W
footprint ws 0.6W H
pins: 1, 2

## 160K/2.5W
designator R?
weerstand 160K 2.5W
footprint ws 2.5W H
pins: 1, 2

## 160K/5W
designator R?
weerstand 160K 5W
footprint ws 5W H
pins: 1, 2

## 160K/7W
designator R?
weerstand 160K 7W
footprint ws 7W H
pins: 1, 2

## 160K/10W
designator R?
weerstand 160K 10W
footprint ws 10W H
pins: 1, 2

## 160K/402
designator R?
weerstand SMD402, 160K
footprint smd C0402_0.35
pins: 1, 2

## 160K/603
designator R?
weerstand SMD603, 160K
footprint smd C0603_0.45
pins: 1, 2

## 160K/805
designator R?
weerstand SMD805, 160K
footprint smd C0805_0.50
pins: 1, 2

## 160K/1206
designator R?
weerstand SMD1206, 160K
footprint smd C1206_0.55
pins: 1, 2

## 160K/V
designator R?
weerstand 160K 0.6W, vertikaal
footprint ws 0.6W V
pins: 1, 2

## 160R
designator R?
weerstand 160R 0.6W
footprint ws 0.6W H
pins: 1, 2

## 160R/2.5W
designator R?
weerstand 160R 2.5W
footprint ws 2.5W H
pins: 1, 2

## 160R/5W
designator R?
weerstand 160R 5W
footprint ws 5W H
pins: 1, 2

## 160R/7W
designator R?
weerstand 160R 7W
footprint ws 7W H
pins: 1, 2

## 160R/10W
designator R?
weerstand 160R 10W
footprint ws 10W H
pins: 1, 2

## 160R/402
designator R?
weerstand SMD402, 160R
footprint smd C0402_0.35
pins: 1, 2

## 160R/603
designator R?
weerstand SMD603, 160R
footprint smd C0603_0.45
pins: 1, 2

## 160R/805
designator R?
weerstand SMD805, 160R
footprint smd C0805_0.50
pins: 1, 2

## 160R/1206
designator R?
weerstand SMD1206, 160R
footprint smd C1206_0.55
pins: 1, 2

## 160R/V
designator R?
weerstand 160R 0.6W, vertikaal
footprint ws 0.6W V
pins: 1, 2

## 180K
designator R?
weerstand 180K 0.6W
footprint ws 0.6W H
pins: 1, 2

## 180K/2.5W
designator R?
weerstand 180K 2.5W
footprint ws 2.5W H
pins: 1, 2

## 180K/5W
designator R?
weerstand 180K 5W
footprint ws 5W H
pins: 1, 2

## 180K/7W
designator R?
weerstand 180K 7W
footprint ws 7W H
pins: 1, 2

## 180K/10W
designator R?
weerstand 180K 10W
footprint ws 10W H
pins: 1, 2

## 180K/402
designator R?
weerstand SMD402, 180K
footprint smd C0402_0.35
pins: 1, 2

## 180K/603
designator R?
weerstand SMD603, 180K
footprint smd C0603_0.45
pins: 1, 2

## 180K/805
designator R?
weerstand SMD805, 180K
footprint smd C0805_0.50
pins: 1, 2

## 180K/1206
designator R?
weerstand SMD1206, 180K
footprint smd C1206_0.55
pins: 1, 2

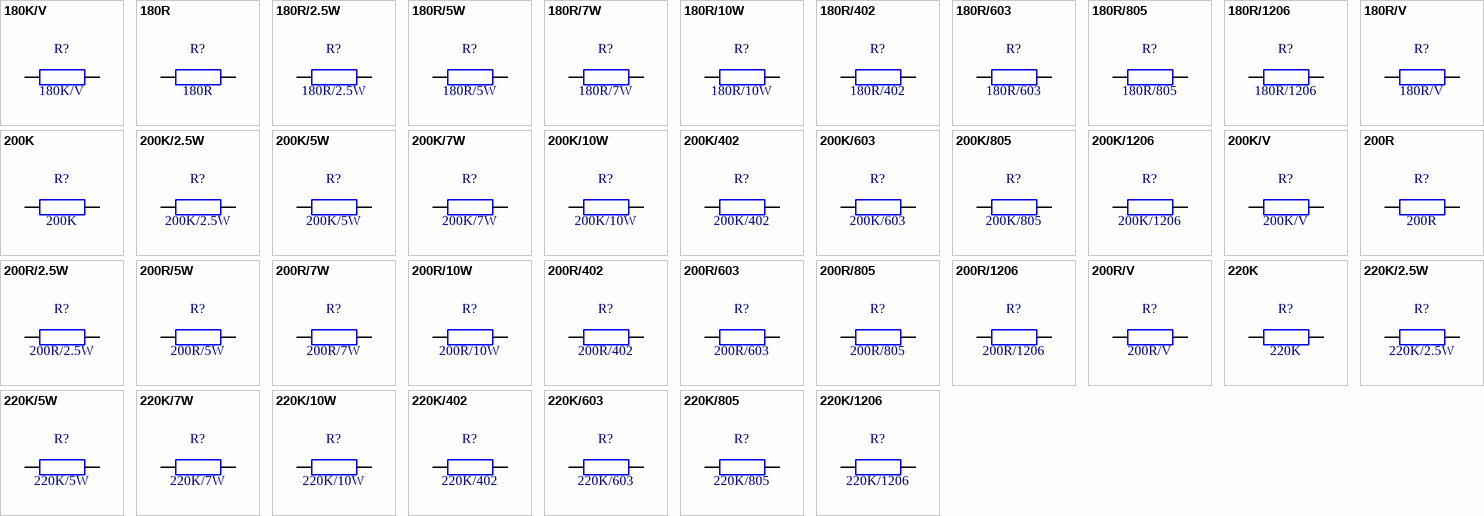
[diagram p79: symbols 180K/V to 220K/1206]

## 180K/V
designator R?
weerstand 180K 0.6W, vertikaal
footprint ws 0.6W V
pins: 1, 2

## 180R
designator R?
weerstand 180R 0.6W
footprint ws 0.6W H
pins: 1, 2

## 180R/2.5W
designator R?
weerstand 180R 2.5W
footprint ws 2.5W H
pins: 1, 2

## 180R/5W
designator R?
weerstand 180R 5W
footprint ws 5W H
pins: 1, 2

## 180R/7W
designator R?
weerstand 180R 7W
footprint ws 7W H
pins: 1, 2

## 180R/10W
designator R?
weerstand 180R 10W
footprint ws 10W H
pins: 1, 2

## 180R/402
designator R?
weerstand SMD402, 180R
footprint smd C0402_0.35
pins: 1, 2

## 180R/603
designator R?
weerstand SMD603, 180R
footprint smd C0603_0.45
pins: 1, 2

## 180R/805
designator R?
weerstand SMD805, 180R
footprint smd C0805_0.50
pins: 1, 2

## 180R/1206
designator R?
weerstand SMD1206, 180R
footprint smd C1206_0.55
pins: 1, 2

## 180R/V
designator R?
weerstand 180R 0.6W, vertikaal
footprint ws 0.6W V
pins: 1, 2

## 200K
designator R?
weerstand 200K 0.6W
footprint ws 0.6W H
pins: 1, 2

## 200K/2.5W
designator R?
weerstand 200K 2.5W
footprint ws 2.5W H
pins: 1, 2

## 200K/5W
designator R?
weerstand 200K 5W
footprint ws 5W H
pins: 1, 2

## 200K/7W
designator R?
weerstand 200K 7W
footprint ws 7W H
pins: 1, 2

## 200K/10W
designator R?
weerstand 200K 10W
footprint ws 10W H
pins: 1, 2

## 200K/402
designator R?
weerstand SMD402, 200K
footprint smd C0402_0.35
pins: 1, 2

## 200K/603
designator R?
weerstand SMD603, 200K
footprint smd C0603_0.45
pins: 1, 2

## 200K/805
designator R?
weerstand SMD805, 200K
footprint smd C0805_0.50
pins: 1, 2

## 200K/1206
designator R?
weerstand SMD1206, 200K
footprint smd C1206_0.55
pins: 1, 2

## 200K/V
designator R?
weerstand 200K 0.6W, vertikaal
footprint ws 0.6W V
pins: 1, 2

## 200R
designator R?
weerstand 200R 0.6W
footprint ws 0.6W H
pins: 1, 2

## 200R/2.5W
designator R?
weerstand 200R 2.5W
footprint ws 2.5W H
pins: 1, 2

## 200R/5W
designator R?
weerstand 200R 5W
footprint ws 5W H
pins: 1, 2

## 200R/7W
designator R?
weerstand 200R 7W
footprint ws 7W H
pins: 1, 2

## 200R/10W
designator R?
weerstand 200R 10W
footprint ws 10W H
pins: 1, 2

## 200R/402
designator R?
weerstand SMD402, 200R
footprint smd C0402_0.35
pins: 1, 2

## 200R/603
designator R?
weerstand SMD603, 200R
footprint smd C0603_0.45
pins: 1, 2

## 200R/805
designator R?
weerstand SMD805, 200R
footprint smd C0805_0.50
pins: 1, 2

## 200R/1206
designator R?
weerstand SMD1206, 200R
footprint smd C1206_0.55
pins: 1, 2

## 200R/V
designator R?
weerstand 200R 0.6W, vertikaal
footprint ws 0.6W V
pins: 1, 2

## 220K
designator R?
weerstand 220K 0.6W
footprint ws 0.6W H
pins: 1, 2

## 220K/2.5W
designator R?
weerstand 220K 2.5W
footprint ws 2.5W H
pins: 1, 2

## 220K/5W
designator R?
weerstand 220K 5W
footprint ws 5W H
pins: 1, 2

## 220K/7W
designator R?
weerstand 220K 7W
footprint ws 7W H
pins: 1, 2

## 220K/10W
designator R?
weerstand 220K 10W
footprint ws 10W H
pins: 1, 2

## 220K/402
designator R?
weerstand SMD402, 220K
footprint smd C0402_0.35
pins: 1, 2

## 220K/603
designator R?
weerstand SMD603, 220K
footprint smd C0603_0.45
pins: 1, 2

## 220K/805
designator R?
weerstand SMD805, 220K
footprint smd C0805_0.50
pins: 1, 2

## 220K/1206
designator R?
weerstand SMD1206, 220K
footprint smd C1206_0.55
pins: 1, 2

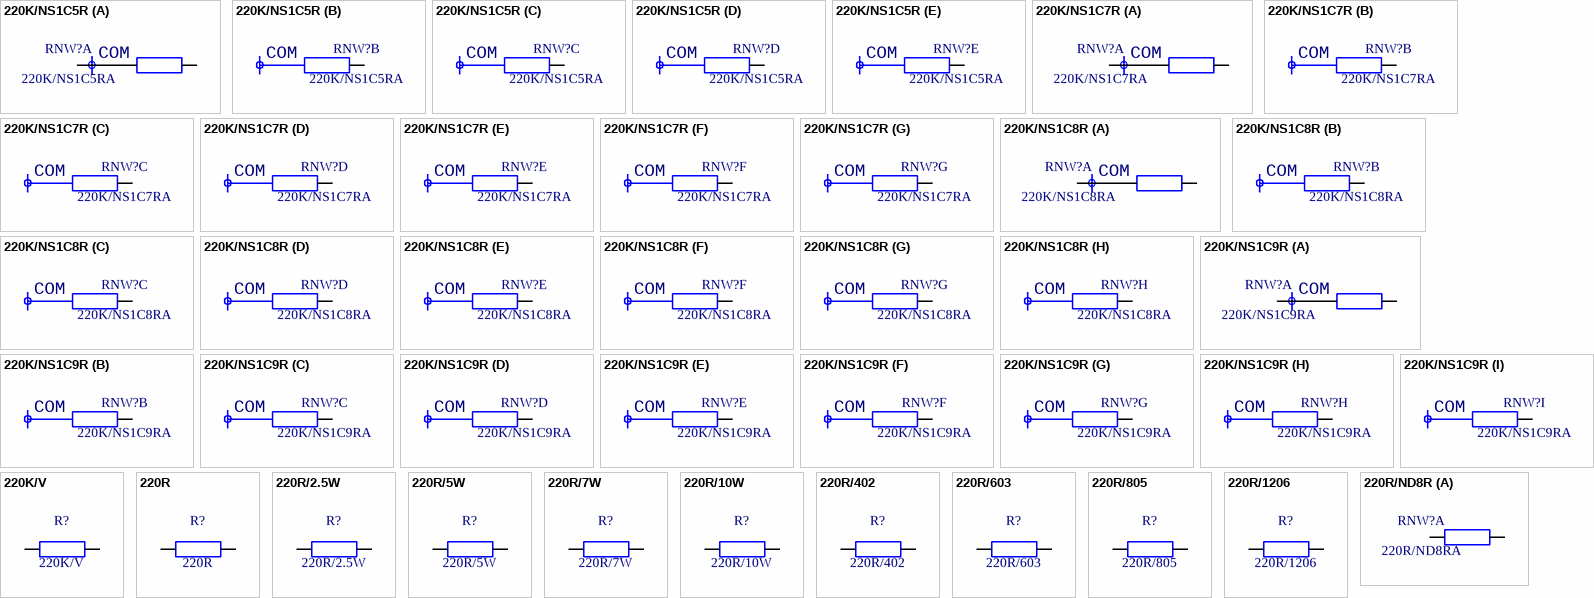
[diagram p80: symbols 220K/NS1C5R to 220R/ND8R]

## 220K/NS1C5R
designator RNW?, comment 220K/NS1C5RA
weerstandsnetwerk, SIL, 1 gemeens.pin, 5 weerst., 220K
footprint ws netwerk 5xR 1C (SIL)
part A pins: 1, 2
part B pins: 3
part C pins: 4
part D pins: 5
part E pins: 6
part A text: COM
part B text: COM
part C text: COM
part D text: COM
part E text: COM

## 220K/NS1C7R
designator RNW?, comment 220K/NS1C7RA
weerstandsnetwerk, SIL, 1 gemeens.pin, 7 weerst., 220K
footprint ws netwerk 7xR 1C (SIL)
part A pins: 1, 2
part B pins: 3
part C pins: 4
part D pins: 5
part E pins: 6
part F pins: 7
part G pins: 8
part A text: COM
part B text: COM
part C text: COM
part D text: COM
part E text: COM
part F text: COM
part G text: COM

## 220K/NS1C8R
designator RNW?, comment 220K/NS1C8RA
weerstandsnetwerk, SIL, 1 gemeens.pin, 8 weerst., 220K
footprint ws netwerk 8xR 1C (SIL)
part A pins: 1, 2
part B pins: 3
part C pins: 4
part D pins: 5
part E pins: 6
part F pins: 7
part G pins: 8
part H pins: 9
part A text: COM
part B text: COM
part C text: COM
part D text: COM
part E text: COM
part F text: COM
part G text: COM
part H text: COM

## 220K/NS1C9R
designator RNW?, comment 220K/NS1C9RA
weerstandsnetwerk, SIL, 1 gemeens.pin, 9 weerst., 220K
footprint ws netwerk 9xR 1C (SIL)
part A pins: 1, 2
part B pins: 3
part C pins: 4
part D pins: 5
part E pins: 6
part F pins: 7
part G pins: 8
part H pins: 9
part I pins: 10
part A text: COM
part B text: COM
part C text: COM
part D text: COM
part E text: COM
part F text: COM
part G text: COM
part H text: COM
part I text: COM

## 220K/V
designator R?
weerstand 220K 0.6W, vertikaal
footprint ws 0.6W V
pins: 1, 2

## 220R
designator R?
weerstand 220R 0.6W
footprint ws 0.6W H
pins: 1, 2

## 220R/2.5W
designator R?
weerstand 220R 2.5W
footprint ws 2.5W H
pins: 1, 2

## 220R/5W
designator R?
weerstand 220R 5W
footprint ws 5W H
pins: 1, 2

## 220R/7W
designator R?
weerstand 220R 7W
footprint ws 7W H
pins: 1, 2

## 220R/10W
designator R?
weerstand 220R 10W
footprint ws 10W H
pins: 1, 2

## 220R/402
designator R?
weerstand SMD402, 220R
footprint smd C0402_0.35
pins: 1, 2

## 220R/603
designator R?
weerstand SMD603, 220R
footprint smd C0603_0.45
pins: 1, 2

## 220R/805
designator R?
weerstand SMD805, 220R
footprint smd C0805_0.50
pins: 1, 2

## 220R/1206
designator R?
weerstand SMD1206, 220R
footprint smd C1206_0.55
pins: 1, 2

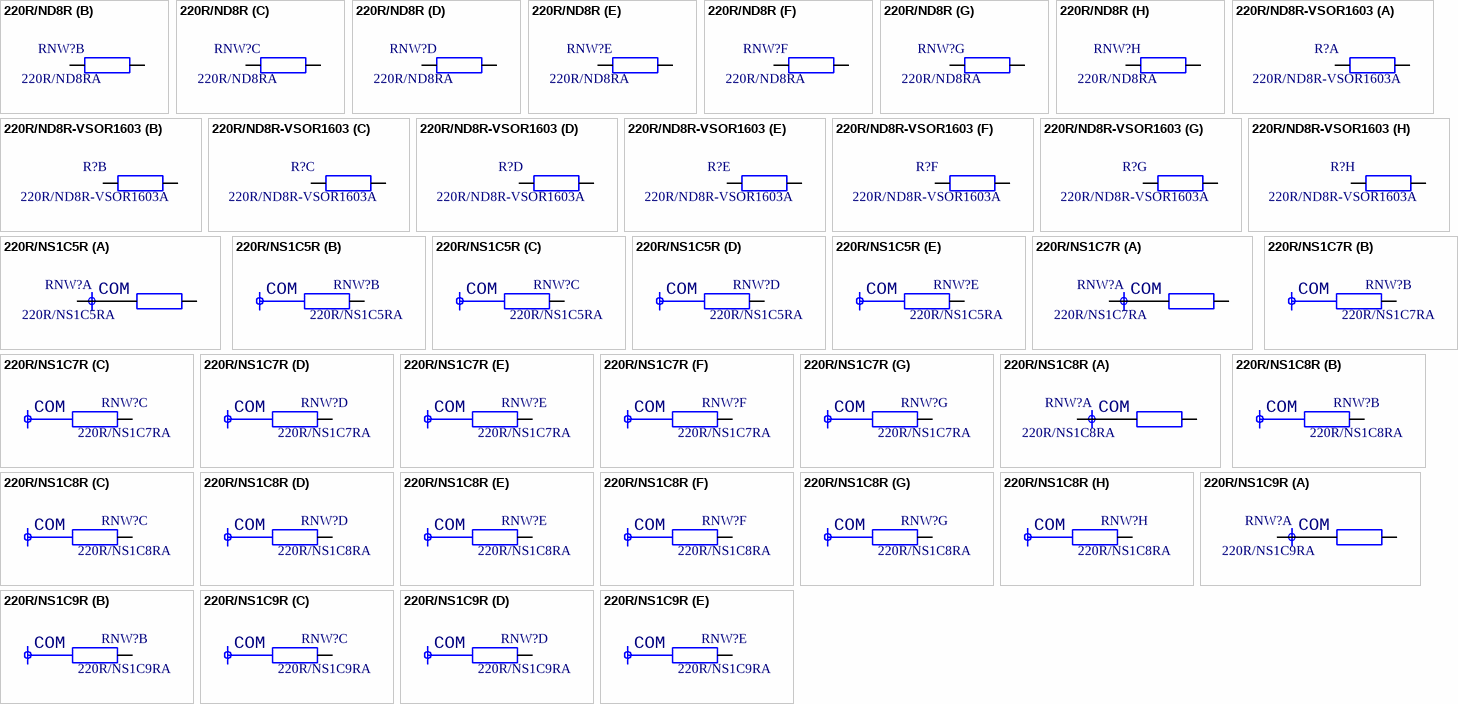
[diagram p81: symbols 220R/ND8R to 220R/NS1C9R]

## 220R/ND8R
designator RNW?, comment 220R/ND8RA
weerstandsnetwerk, DIL, 8 x 220R
footprint icv DIP16-300
part A pins: 1, 16
part B pins: 2, 15
part C pins: 3, 14
part D pins: 4, 13
part E pins: 5, 12
part F pins: 6, 11
part G pins: 7, 10
part H pins: 8, 9

## 220R/ND8R-VSOR1603
designator R?, comment 220R/ND8R-VSOR1603A
weerstandsnetwerk, DIL, smd, Vishay VSOR1603, 8 x 220R
footprint smd SOICN/16
part A pins: 1, 16
part B pins: 2, 15
part C pins: 3, 14
part D pins: 4, 13
part E pins: 5, 12
part F pins: 6, 11
part G pins: 7, 10
part H pins: 8, 9

## 220R/NS1C5R
designator RNW?, comment 220R/NS1C5RA
weerstandsnetwerk, SIL, 1 gemeens.pin, 5 weerst., 220R
footprint ws netwerk 5xR 1C (SIL)
part A pins: 1, 2
part B pins: 3
part C pins: 4
part D pins: 5
part E pins: 6
part A text: COM
part B text: COM
part C text: COM
part D text: COM
part E text: COM

## 220R/NS1C7R
designator RNW?, comment 220R/NS1C7RA
weerstandsnetwerk, SIL, 1 gemeens.pin, 7 weerst., 220R
footprint ws netwerk 7xR 1C (SIL)
part A pins: 1, 2
part B pins: 3
part C pins: 4
part D pins: 5
part E pins: 6
part F pins: 7
part G pins: 8
part A text: COM
part B text: COM
part C text: COM
part D text: COM
part E text: COM
part F text: COM
part G text: COM

## 220R/NS1C8R
designator RNW?, comment 220R/NS1C8RA
weerstandsnetwerk, SIL, 1 gemeens.pin, 8 weerst., 220R
footprint ws netwerk 8xR 1C (SIL)
part A pins: 1, 2
part B pins: 3
part C pins: 4
part D pins: 5
part E pins: 6
part F pins: 7
part G pins: 8
part H pins: 9
part A text: COM
part B text: COM
part C text: COM
part D text: COM
part E text: COM
part F text: COM
part G text: COM
part H text: COM

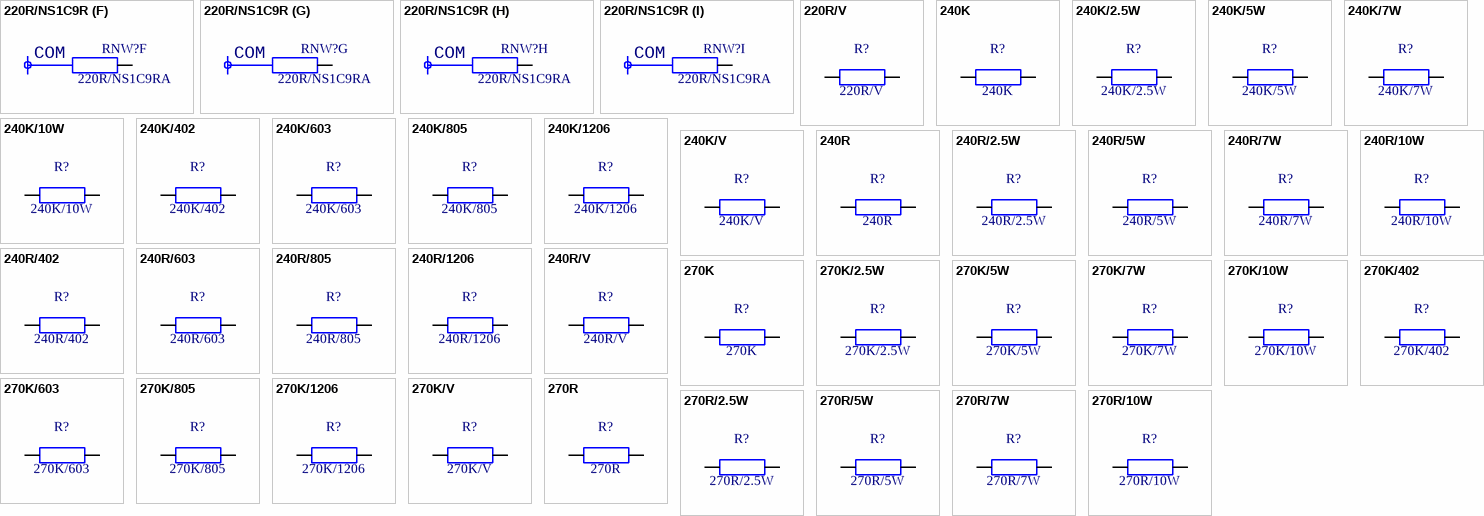
[diagram p82: symbols 220R/NS1C9R to 270R/10W]

## 220R/NS1C9R
designator RNW?, comment 220R/NS1C9RA
weerstandsnetwerk, SIL, 1 gemeens.pin, 9 weerst., 220R
footprint ws netwerk 9xR 1C (SIL)
part A pins: 1, 2
part B pins: 3
part C pins: 4
part D pins: 5
part E pins: 6
part F pins: 7
part G pins: 8
part H pins: 9
part I pins: 10
part A text: COM
part B text: COM
part C text: COM
part D text: COM
part E text: COM
part F text: COM
part G text: COM
part H text: COM
part I text: COM

## 220R/V
designator R?
weerstand 220R 0.6W, vertikaal
footprint ws 0.6W V
pins: 1, 2

## 240K
designator R?
weerstand 240K 0.6W
footprint ws 0.6W H
pins: 1, 2

## 240K/2.5W
designator R?
weerstand 240K 2.5W
footprint ws 2.5W H
pins: 1, 2

## 240K/5W
designator R?
weerstand 240K 5W
footprint ws 5W H
pins: 1, 2

## 240K/7W
designator R?
weerstand 240K 7W
footprint ws 7W H
pins: 1, 2

## 240K/10W
designator R?
weerstand 240K 10W
footprint ws 10W H
pins: 1, 2

## 240K/402
designator R?
weerstand SMD402, 240K
footprint smd C0402_0.35
pins: 1, 2

## 240K/603
designator R?
weerstand SMD603, 240K
footprint smd C0603_0.45
pins: 1, 2

## 240K/805
designator R?
weerstand SMD805, 240K
footprint smd C0805_0.50
pins: 1, 2

## 240K/1206
designator R?
weerstand SMD1206, 240K
footprint smd C1206_0.55
pins: 1, 2

## 240K/V
designator R?
weerstand 240K 0.6W, vertikaal
footprint ws 0.6W V
pins: 1, 2

## 240R
designator R?
weerstand 240R 0.6W
footprint ws 0.6W H
pins: 1, 2

## 240R/2.5W
designator R?
weerstand 240R 2.5W
footprint ws 2.5W H
pins: 1, 2

## 240R/5W
designator R?
weerstand 240R 5W
footprint ws 5W H
pins: 1, 2

## 240R/7W
designator R?
weerstand 240R 7W
footprint ws 7W H
pins: 1, 2

## 240R/10W
designator R?
weerstand 240R 10W
footprint ws 10W H
pins: 1, 2

## 240R/402
designator R?
weerstand SMD402, 240R
footprint smd C0402_0.35
pins: 1, 2

## 240R/603
designator R?
weerstand SMD603, 240R
footprint smd C0603_0.45
pins: 1, 2

## 240R/805
designator R?
weerstand SMD805, 240R
footprint smd C0805_0.50
pins: 1, 2

## 240R/1206
designator R?
weerstand SMD1206, 240R
footprint smd C1206_0.55
pins: 1, 2

## 240R/V
designator R?
weerstand 240R 0.6W, vertikaal
footprint ws 0.6W V
pins: 1, 2

## 270K
designator R?
weerstand 270K 0.6W
footprint ws 0.6W H
pins: 1, 2

## 270K/2.5W
designator R?
weerstand 270K 2.5W
footprint ws 2.5W H
pins: 1, 2

## 270K/5W
designator R?
weerstand 270K 5W
footprint ws 5W H
pins: 1, 2

## 270K/7W
designator R?
weerstand 270K 7W
footprint ws 7W H
pins: 1, 2

## 270K/10W
designator R?
weerstand 270K 10W
footprint ws 10W H
pins: 1, 2

## 270K/402
designator R?
weerstand SMD402, 270K
footprint smd C0402_0.35
pins: 1, 2

## 270K/603
designator R?
weerstand SMD603, 270K
footprint smd C0603_0.45
pins: 1, 2

## 270K/805
designator R?
weerstand SMD805, 270K
footprint smd C0805_0.50
pins: 1, 2

## 270K/1206
designator R?
weerstand SMD1206, 270K
footprint smd C1206_0.55
pins: 1, 2

## 270K/V
designator R?
weerstand 270K 0.6W, vertikaal
footprint ws 0.6W V
pins: 1, 2

## 270R
designator R?
weerstand 270R 0.6W
footprint ws 0.6W H
pins: 1, 2

## 270R/2.5W
designator R?
weerstand 270R 2.5W
footprint ws 2.5W H
pins: 1, 2

## 270R/5W
designator R?
weerstand 270R 5W
footprint ws 5W H
pins: 1, 2

## 270R/7W
designator R?
weerstand 270R 7W
footprint ws 7W H
pins: 1, 2

## 270R/10W
designator R?
weerstand 270R 10W
footprint ws 10W H
pins: 1, 2

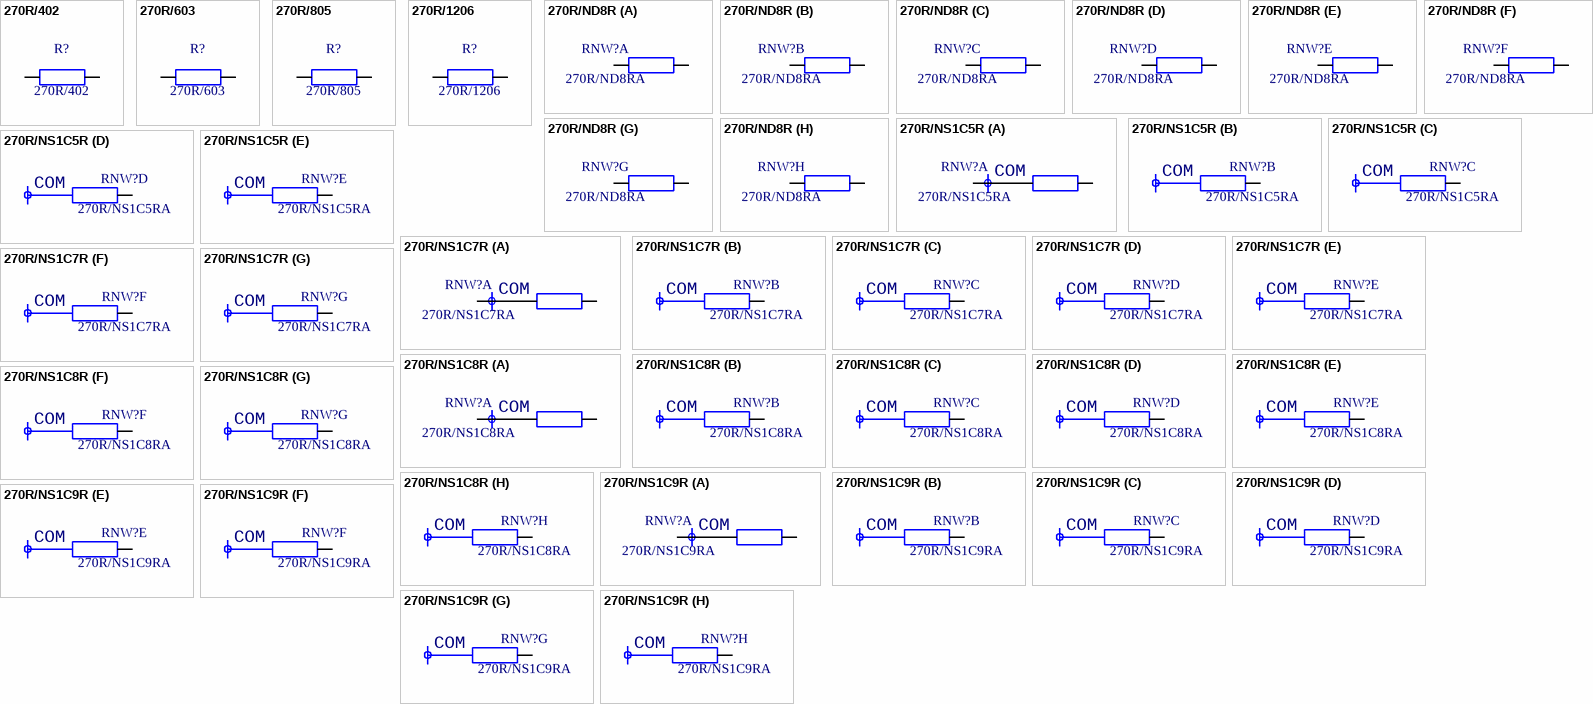
[diagram p83: symbols 270R/402 to 270R/NS1C9R]

## 270R/402
designator R?
weerstand SMD402, 270R
footprint smd C0402_0.35
pins: 1, 2

## 270R/603
designator R?
weerstand SMD603, 270R
footprint smd C0603_0.45
pins: 1, 2

## 270R/805
designator R?
weerstand SMD805, 270R
footprint smd C0805_0.50
pins: 1, 2

## 270R/1206
designator R?
weerstand SMD1206, 270R
footprint smd C1206_0.55
pins: 1, 2

## 270R/ND8R
designator RNW?, comment 270R/ND8RA
weerstandsnetwerk, DIL, 8 x 270R
footprint icv DIP16-300
part A pins: 1, 16
part B pins: 2, 15
part C pins: 3, 14
part D pins: 4, 13
part E pins: 5, 12
part F pins: 6, 11
part G pins: 7, 10
part H pins: 8, 9

## 270R/NS1C5R
designator RNW?, comment 270R/NS1C5RA
weerstandsnetwerk, SIL, 1 gemeens.pin, 5 weerst., 270R
footprint ws netwerk 5xR 1C (SIL)
part A pins: 1, 2
part B pins: 3
part C pins: 4
part D pins: 5
part E pins: 6
part A text: COM
part B text: COM
part C text: COM
part D text: COM
part E text: COM

## 270R/NS1C7R
designator RNW?, comment 270R/NS1C7RA
weerstandsnetwerk, SIL, 1 gemeens.pin, 7 weerst., 270R
footprint ws netwerk 7xR 1C (SIL)
part A pins: 1, 2
part B pins: 3
part C pins: 4
part D pins: 5
part E pins: 6
part F pins: 7
part G pins: 8
part A text: COM
part B text: COM
part C text: COM
part D text: COM
part E text: COM
part F text: COM
part G text: COM

## 270R/NS1C8R
designator RNW?, comment 270R/NS1C8RA
weerstandsnetwerk, SIL, 1 gemeens.pin, 8 weerst., 270R
footprint ws netwerk 8xR 1C (SIL)
part A pins: 1, 2
part B pins: 3
part C pins: 4
part D pins: 5
part E pins: 6
part F pins: 7
part G pins: 8
part H pins: 9
part A text: COM
part B text: COM
part C text: COM
part D text: COM
part E text: COM
part F text: COM
part G text: COM
part H text: COM

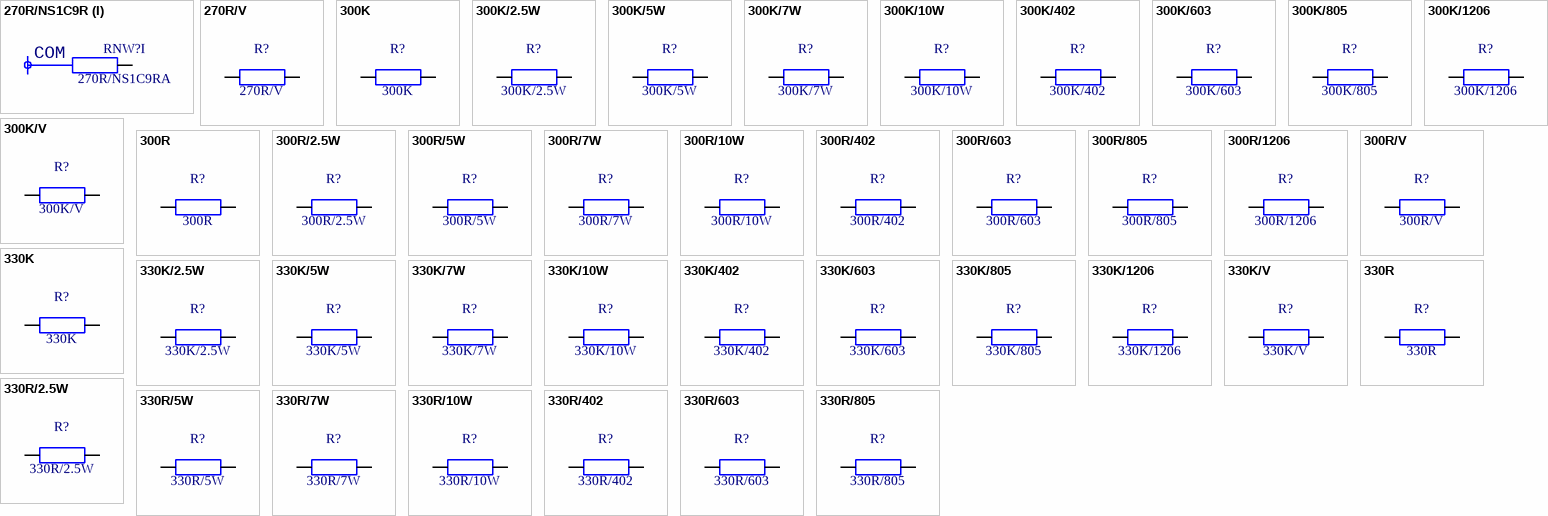
[diagram p84: symbols 270R/NS1C9R to 330R/805]

## 270R/NS1C9R
designator RNW?, comment 270R/NS1C9RA
weerstandsnetwerk, SIL, 1 gemeens.pin, 9 weerst., 270R
footprint ws netwerk 9xR 1C (SIL)
part A pins: 1, 2
part B pins: 3
part C pins: 4
part D pins: 5
part E pins: 6
part F pins: 7
part G pins: 8
part H pins: 9
part I pins: 10
part A text: COM
part B text: COM
part C text: COM
part D text: COM
part E text: COM
part F text: COM
part G text: COM
part H text: COM
part I text: COM

## 270R/V
designator R?
weerstand 270R 0.6W, vertikaal
footprint ws 0.6W V
pins: 1, 2

## 300K
designator R?
weerstand 300K 0.6W
footprint ws 0.6W H
pins: 1, 2

## 300K/2.5W
designator R?
weerstand 300K 2.5W
footprint ws 2.5W H
pins: 1, 2

## 300K/5W
designator R?
weerstand 300K 5W
footprint ws 5W H
pins: 1, 2

## 300K/7W
designator R?
weerstand 300K 7W
footprint ws 7W H
pins: 1, 2

## 300K/10W
designator R?
weerstand 300K 10W
footprint ws 10W H
pins: 1, 2

## 300K/402
designator R?
weerstand SMD402, 300K
footprint smd C0402_0.35
pins: 1, 2

## 300K/603
designator R?
weerstand SMD603, 300K
footprint smd C0603_0.45
pins: 1, 2

## 300K/805
designator R?
weerstand SMD805, 300K
footprint smd C0805_0.50
pins: 1, 2

## 300K/1206
designator R?
weerstand SMD1206, 300K
footprint smd C1206_0.55
pins: 1, 2

## 300K/V
designator R?
weerstand 300K 0.6W, vertikaal
footprint ws 0.6W V
pins: 1, 2

## 300R
designator R?
weerstand 300R 0.6W
footprint ws 0.6W H
pins: 1, 2

## 300R/2.5W
designator R?
weerstand 300R 2.5W
footprint ws 2.5W H
pins: 1, 2

## 300R/5W
designator R?
weerstand 300R 5W
footprint ws 5W H
pins: 1, 2

## 300R/7W
designator R?
weerstand 300R 7W
footprint ws 7W H
pins: 1, 2

## 300R/10W
designator R?
weerstand 300R 10W
footprint ws 10W H
pins: 1, 2

## 300R/402
designator R?
weerstand SMD402, 300R
footprint smd C0402_0.35
pins: 1, 2

## 300R/603
designator R?
weerstand SMD603, 300R
footprint smd C0603_0.45
pins: 1, 2

## 300R/805
designator R?
weerstand SMD805, 300R
footprint smd C0805_0.50
pins: 1, 2

## 300R/1206
designator R?
weerstand SMD1206, 300R
footprint smd C1206_0.55
pins: 1, 2

## 300R/V
designator R?
weerstand 300R 0.6W, vertikaal
footprint ws 0.6W V
pins: 1, 2

## 330K
designator R?
weerstand 330K 0.6W
footprint ws 0.6W H
pins: 1, 2

## 330K/2.5W
designator R?
weerstand 330K 2.5W
footprint ws 2.5W H
pins: 1, 2

## 330K/5W
designator R?
weerstand 330K 5W
footprint ws 5W H
pins: 1, 2

## 330K/7W
designator R?
weerstand 330K 7W
footprint ws 7W H
pins: 1, 2

## 330K/10W
designator R?
weerstand 330K 10W
footprint ws 10W H
pins: 1, 2

## 330K/402
designator R?
weerstand SMD402, 330K
footprint smd C0402_0.35
pins: 1, 2

## 330K/603
designator R?
weerstand SMD603, 330K
footprint smd C0603_0.45
pins: 1, 2

## 330K/805
designator R?
weerstand SMD805, 330K
footprint smd C0805_0.50
pins: 1, 2

## 330K/1206
designator R?
weerstand SMD1206, 330K
footprint smd C1206_0.55
pins: 1, 2

## 330K/V
designator R?
weerstand 330K 0.6W, vertikaal
footprint ws 0.6W V
pins: 1, 2

## 330R
designator R?
weerstand 330R 0.6W
footprint ws 0.6W H
pins: 1, 2

## 330R/2.5W
designator R?
weerstand 330R 2.5W
footprint ws 2.5W H
pins: 1, 2

## 330R/5W
designator R?
weerstand 330R 5W
footprint ws 5W H
pins: 1, 2

## 330R/7W
designator R?
weerstand 330R 7W
footprint ws 7W H
pins: 1, 2

## 330R/10W
designator R?
weerstand 330R 10W
footprint ws 10W H
pins: 1, 2

## 330R/402
designator R?
weerstand SMD402, 330R
footprint smd C0402_0.35
pins: 1, 2

## 330R/603
designator R?
weerstand SMD603, 330R
footprint smd C0603_0.45
pins: 1, 2

## 330R/805
designator R?
weerstand SMD805, 330R
footprint smd C0805_0.50
pins: 1, 2

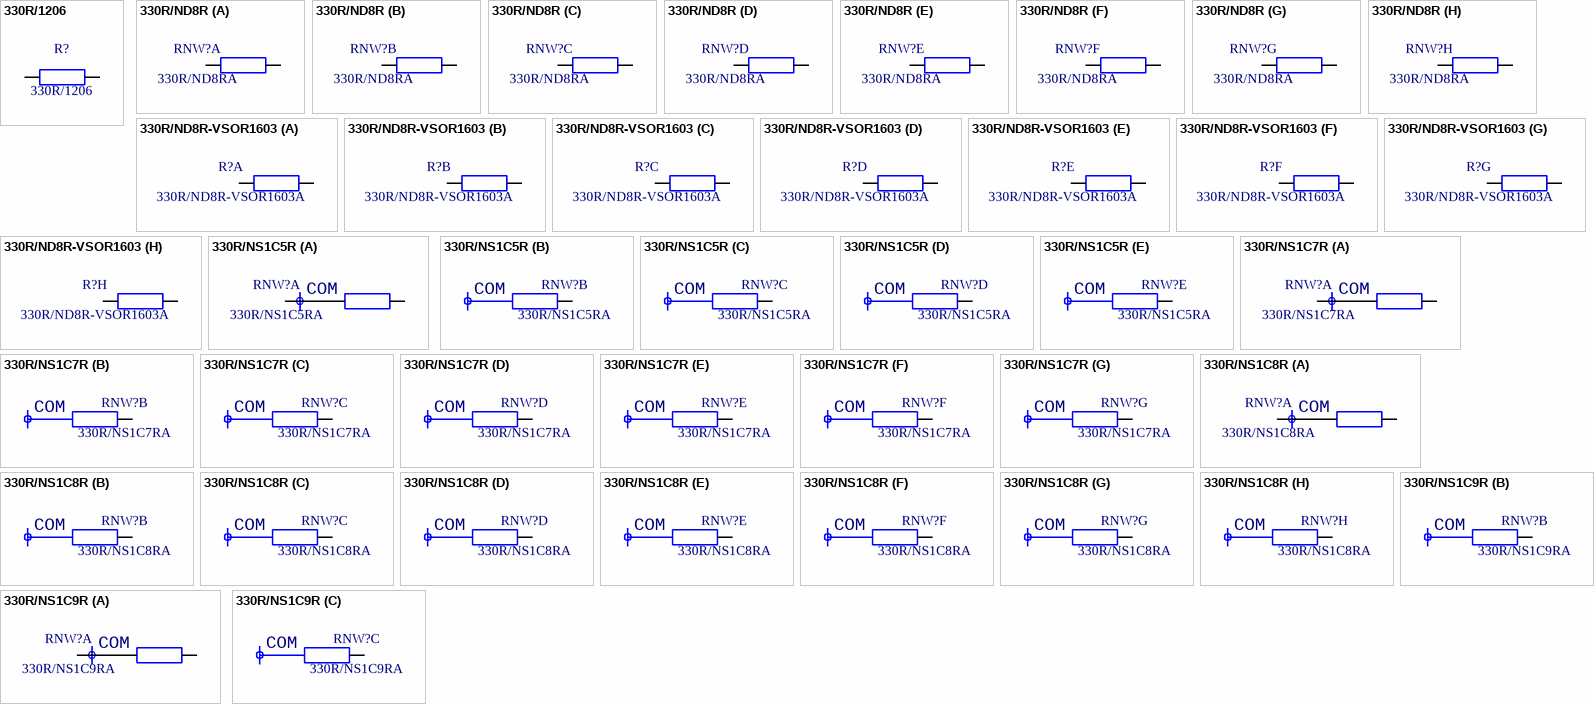
[diagram p85: symbols 330R/1206 to 330R/NS1C9R]

## 330R/1206
designator R?
weerstand SMD1206, 330R
footprint smd C1206_0.55
pins: 1, 2

## 330R/ND8R
designator RNW?, comment 330R/ND8RA
weerstandsnetwerk, DIL, 8 x 330R
footprint icv DIP16-300
part A pins: 1, 16
part B pins: 2, 15
part C pins: 3, 14
part D pins: 4, 13
part E pins: 5, 12
part F pins: 6, 11
part G pins: 7, 10
part H pins: 8, 9

## 330R/ND8R-VSOR1603
designator R?, comment 330R/ND8R-VSOR1603A
weerstandsnetwerk, DIL, smd, Vishay VSOR1603, 8 x 330R
footprint smd SOICN/16
part A pins: 1, 16
part B pins: 2, 15
part C pins: 3, 14
part D pins: 4, 13
part E pins: 5, 12
part F pins: 6, 11
part G pins: 7, 10
part H pins: 8, 9

## 330R/NS1C5R
designator RNW?, comment 330R/NS1C5RA
weerstandsnetwerk, SIL, 1 gemeens.pin, 5 weerst., 330R
footprint ws netwerk 5xR 1C (SIL)
part A pins: 1, 2
part B pins: 3
part C pins: 4
part D pins: 5
part E pins: 6
part A text: COM
part B text: COM
part C text: COM
part D text: COM
part E text: COM

## 330R/NS1C7R
designator RNW?, comment 330R/NS1C7RA
weerstandsnetwerk, SIL, 1 gemeens.pin, 7 weerst., 330R
footprint ws netwerk 7xR 1C (SIL)
part A pins: 1, 2
part B pins: 3
part C pins: 4
part D pins: 5
part E pins: 6
part F pins: 7
part G pins: 8
part A text: COM
part B text: COM
part C text: COM
part D text: COM
part E text: COM
part F text: COM
part G text: COM

## 330R/NS1C8R
designator RNW?, comment 330R/NS1C8RA
weerstandsnetwerk, SIL, 1 gemeens.pin, 8 weerst., 330R
footprint ws netwerk 8xR 1C (SIL)
part A pins: 1, 2
part B pins: 3
part C pins: 4
part D pins: 5
part E pins: 6
part F pins: 7
part G pins: 8
part H pins: 9
part A text: COM
part B text: COM
part C text: COM
part D text: COM
part E text: COM
part F text: COM
part G text: COM
part H text: COM

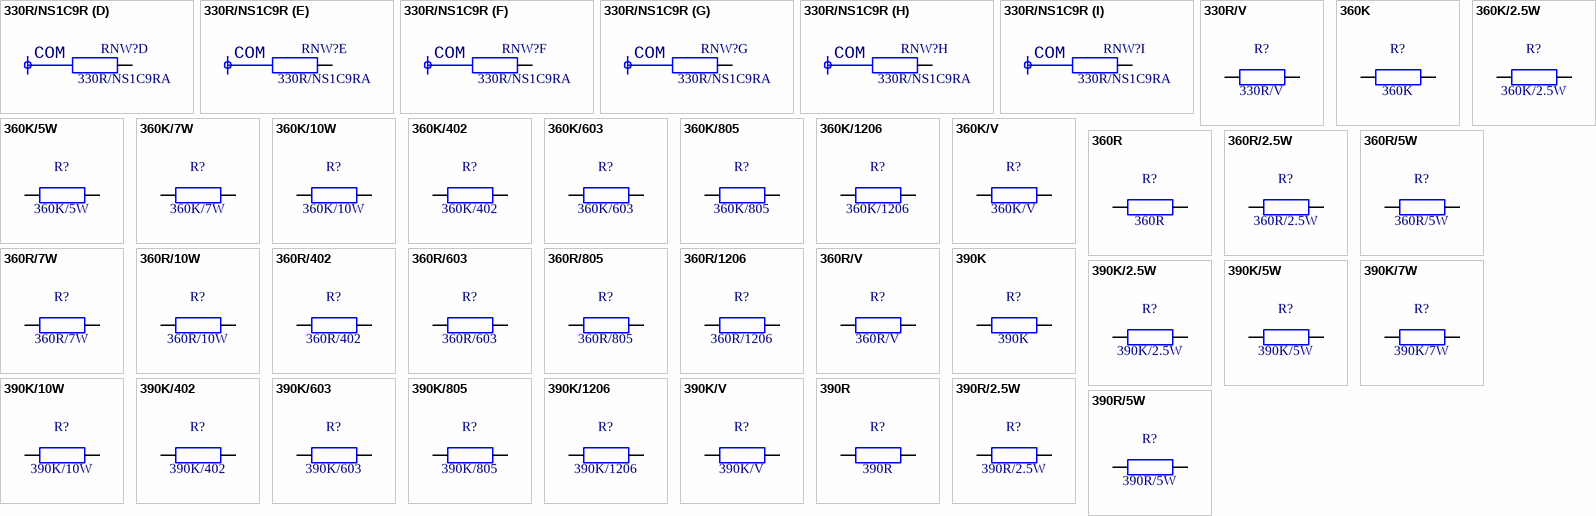
[diagram p86: symbols 330R/NS1C9R to 390R/5W]

## 330R/NS1C9R
designator RNW?, comment 330R/NS1C9RA
weerstandsnetwerk, SIL, 1 gemeens.pin, 9 weerst., 330R
footprint ws netwerk 9xR 1C (SIL)
part A pins: 1, 2
part B pins: 3
part C pins: 4
part D pins: 5
part E pins: 6
part F pins: 7
part G pins: 8
part H pins: 9
part I pins: 10
part A text: COM
part B text: COM
part C text: COM
part D text: COM
part E text: COM
part F text: COM
part G text: COM
part H text: COM
part I text: COM

## 330R/V
designator R?
weerstand 330R 0.6W, vertikaal
footprint ws 0.6W V
pins: 1, 2

## 360K
designator R?
weerstand 360K 0.6W
footprint ws 0.6W H
pins: 1, 2

## 360K/2.5W
designator R?
weerstand 360K 2.5W
footprint ws 2.5W H
pins: 1, 2

## 360K/5W
designator R?
weerstand 360K 5W
footprint ws 5W H
pins: 1, 2

## 360K/7W
designator R?
weerstand 360K 7W
footprint ws 7W H
pins: 1, 2

## 360K/10W
designator R?
weerstand 360K 10W
footprint ws 10W H
pins: 1, 2

## 360K/402
designator R?
weerstand SMD402, 360K
footprint smd C0402_0.35
pins: 1, 2

## 360K/603
designator R?
weerstand SMD603, 360K
footprint smd C0603_0.45
pins: 1, 2

## 360K/805
designator R?
weerstand SMD805, 360K
footprint smd C0805_0.50
pins: 1, 2

## 360K/1206
designator R?
weerstand SMD1206, 360K
footprint smd C1206_0.55
pins: 1, 2

## 360K/V
designator R?
weerstand 360K 0.6W, vertikaal
footprint ws 0.6W V
pins: 1, 2

## 360R
designator R?
weerstand 360R 0.6W
footprint ws 0.6W H
pins: 1, 2

## 360R/2.5W
designator R?
weerstand 360R 2.5W
footprint ws 2.5W H
pins: 1, 2

## 360R/5W
designator R?
weerstand 360R 5W
footprint ws 5W H
pins: 1, 2

## 360R/7W
designator R?
weerstand 360R 7W
footprint ws 7W H
pins: 1, 2

## 360R/10W
designator R?
weerstand 360R 10W
footprint ws 10W H
pins: 1, 2

## 360R/402
designator R?
weerstand SMD402, 360R
footprint smd C0402_0.35
pins: 1, 2

## 360R/603
designator R?
weerstand SMD603, 360R
footprint smd C0603_0.45
pins: 1, 2

## 360R/805
designator R?
weerstand SMD805, 360R
footprint smd C0805_0.50
pins: 1, 2

## 360R/1206
designator R?
weerstand SMD1206, 360R
footprint smd C1206_0.55
pins: 1, 2

## 360R/V
designator R?
weerstand 360R 0.6W, vertikaal
footprint ws 0.6W V
pins: 1, 2

## 390K
designator R?
weerstand 390K 0.6W
footprint ws 0.6W H
pins: 1, 2

## 390K/2.5W
designator R?
weerstand 390K 2.5W
footprint ws 2.5W H
pins: 1, 2

## 390K/5W
designator R?
weerstand 390K 5W
footprint ws 5W H
pins: 1, 2

## 390K/7W
designator R?
weerstand 390K 7W
footprint ws 7W H
pins: 1, 2

## 390K/10W
designator R?
weerstand 390K 10W
footprint ws 10W H
pins: 1, 2

## 390K/402
designator R?
weerstand SMD402, 390K
footprint smd C0402_0.35
pins: 1, 2

## 390K/603
designator R?
weerstand SMD603, 390K
footprint smd C0603_0.45
pins: 1, 2

## 390K/805
designator R?
weerstand SMD805, 390K
footprint smd C0805_0.50
pins: 1, 2

## 390K/1206
designator R?
weerstand SMD1206, 390K
footprint smd C1206_0.55
pins: 1, 2

## 390K/V
designator R?
weerstand 390K 0.6W, vertikaal
footprint ws 0.6W V
pins: 1, 2

## 390R
designator R?
weerstand 390R 0.6W
footprint ws 0.6W H
pins: 1, 2

## 390R/2.5W
designator R?
weerstand 390R 2.5W
footprint ws 2.5W H
pins: 1, 2

## 390R/5W
designator R?
weerstand 390R 5W
footprint ws 5W H
pins: 1, 2

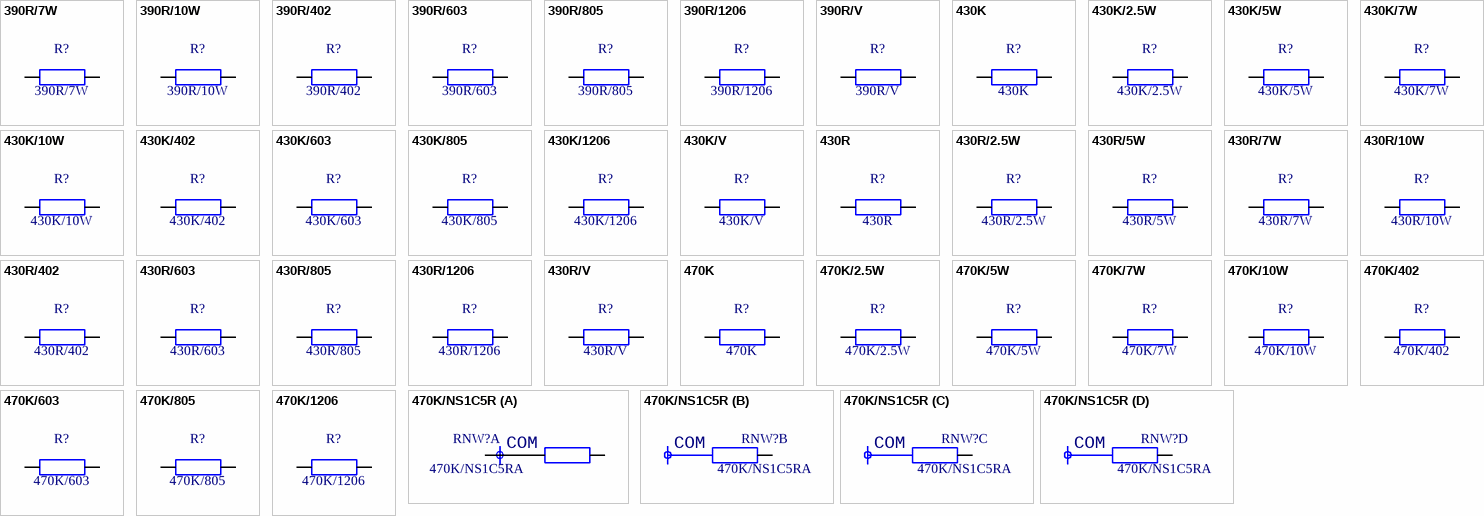
[diagram p87: symbols 390R/7W to 470K/NS1C5R]

## 390R/7W
designator R?
weerstand 390R 7W
footprint ws 7W H
pins: 1, 2

## 390R/10W
designator R?
weerstand 390R 10W
footprint ws 10W H
pins: 1, 2

## 390R/402
designator R?
weerstand SMD402, 390R
footprint smd C0402_0.35
pins: 1, 2

## 390R/603
designator R?
weerstand SMD603, 390R
footprint smd C0603_0.45
pins: 1, 2

## 390R/805
designator R?
weerstand SMD805, 390R
footprint smd C0805_0.50
pins: 1, 2

## 390R/1206
designator R?
weerstand SMD1206, 390R
footprint smd C1206_0.55
pins: 1, 2

## 390R/V
designator R?
weerstand 390R 0.6W, vertikaal
footprint ws 0.6W V
pins: 1, 2

## 430K
designator R?
weerstand 430K 0.6W
footprint ws 0.6W H
pins: 1, 2

## 430K/2.5W
designator R?
weerstand 430K 2.5W
footprint ws 2.5W H
pins: 1, 2

## 430K/5W
designator R?
weerstand 430K 5W
footprint ws 5W H
pins: 1, 2

## 430K/7W
designator R?
weerstand 430K 7W
footprint ws 7W H
pins: 1, 2

## 430K/10W
designator R?
weerstand 430K 10W
footprint ws 10W H
pins: 1, 2

## 430K/402
designator R?
weerstand SMD402, 430K
footprint smd C0402_0.35
pins: 1, 2

## 430K/603
designator R?
weerstand SMD603, 430K
footprint smd C0603_0.45
pins: 1, 2

## 430K/805
designator R?
weerstand SMD805, 430K
footprint smd C0805_0.50
pins: 1, 2

## 430K/1206
designator R?
weerstand SMD1206, 430K
footprint smd C1206_0.55
pins: 1, 2

## 430K/V
designator R?
weerstand 430K 0.6W, vertikaal
footprint ws 0.6W V
pins: 1, 2

## 430R
designator R?
weerstand 430R 0.6W
footprint ws 0.6W H
pins: 1, 2

## 430R/2.5W
designator R?
weerstand 430R 2.5W
footprint ws 2.5W H
pins: 1, 2

## 430R/5W
designator R?
weerstand 430R 5W
footprint ws 5W H
pins: 1, 2

## 430R/7W
designator R?
weerstand 430R 7W
footprint ws 7W H
pins: 1, 2

## 430R/10W
designator R?
weerstand 430R 10W
footprint ws 10W H
pins: 1, 2

## 430R/402
designator R?
weerstand SMD402, 430R
footprint smd C0402_0.35
pins: 1, 2

## 430R/603
designator R?
weerstand SMD603, 430R
footprint smd C0603_0.45
pins: 1, 2

## 430R/805
designator R?
weerstand SMD805, 430R
footprint smd C0805_0.50
pins: 1, 2

## 430R/1206
designator R?
weerstand SMD1206, 430R
footprint smd C1206_0.55
pins: 1, 2

## 430R/V
designator R?
weerstand 430R 0.6W, vertikaal
footprint ws 0.6W V
pins: 1, 2

## 470K
designator R?
weerstand 470K 0.6W
footprint ws 0.6W H
pins: 1, 2

## 470K/2.5W
designator R?
weerstand 470K 2.5W
footprint ws 2.5W H
pins: 1, 2

## 470K/5W
designator R?
weerstand 470K 5W
footprint ws 5W H
pins: 1, 2

## 470K/7W
designator R?
weerstand 470K 7W
footprint ws 7W H
pins: 1, 2

## 470K/10W
designator R?
weerstand 470K 10W
footprint ws 10W H
pins: 1, 2

## 470K/402
designator R?
weerstand SMD402, 470K
footprint smd C0402_0.35
pins: 1, 2

## 470K/603
designator R?
weerstand SMD603, 470K
footprint smd C0603_0.45
pins: 1, 2

## 470K/805
designator R?
weerstand SMD805, 470K
footprint smd C0805_0.50
pins: 1, 2

## 470K/1206
designator R?
weerstand SMD1206, 470K
footprint smd C1206_0.55
pins: 1, 2

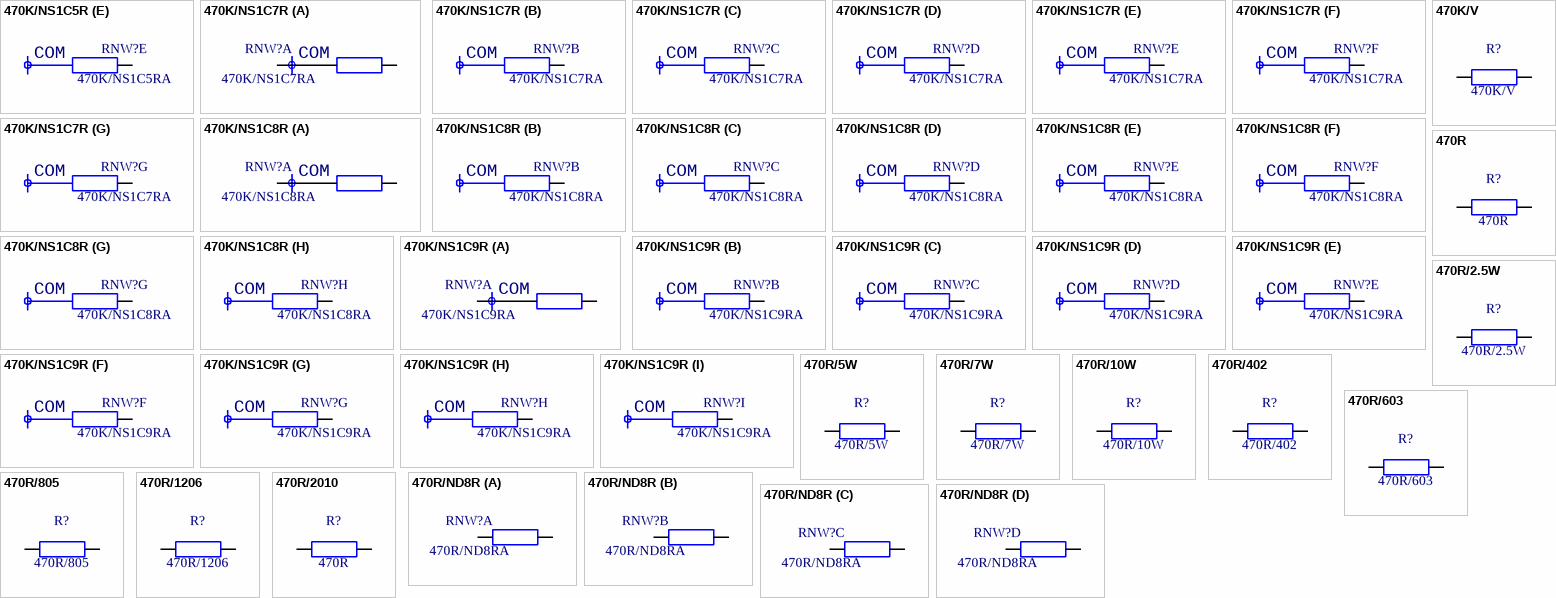
[diagram p88: symbols 470K/NS1C5R to 470R/ND8R]

## 470K/NS1C5R
designator RNW?, comment 470K/NS1C5RA
weerstandsnetwerk, SIL, 1 gemeens.pin, 5 weerst., 470K
footprint ws netwerk 5xR 1C (SIL)
part A pins: 1, 2
part B pins: 3
part C pins: 4
part D pins: 5
part E pins: 6
part A text: COM
part B text: COM
part C text: COM
part D text: COM
part E text: COM

## 470K/NS1C7R
designator RNW?, comment 470K/NS1C7RA
weerstandsnetwerk, SIL, 1 gemeens.pin, 7 weerst., 470K
footprint ws netwerk 7xR 1C (SIL)
part A pins: 1, 2
part B pins: 3
part C pins: 4
part D pins: 5
part E pins: 6
part F pins: 7
part G pins: 8
part A text: COM
part B text: COM
part C text: COM
part D text: COM
part E text: COM
part F text: COM
part G text: COM

## 470K/NS1C8R
designator RNW?, comment 470K/NS1C8RA
weerstandsnetwerk, SIL, 1 gemeens.pin, 8 weerst., 470K
footprint ws netwerk 8xR 1C (SIL)
part A pins: 1, 2
part B pins: 3
part C pins: 4
part D pins: 5
part E pins: 6
part F pins: 7
part G pins: 8
part H pins: 9
part A text: COM
part B text: COM
part C text: COM
part D text: COM
part E text: COM
part F text: COM
part G text: COM
part H text: COM